# Altium schematic symbol library Sch_Lib.SchLib: 879 symbols (part 6 of 10)
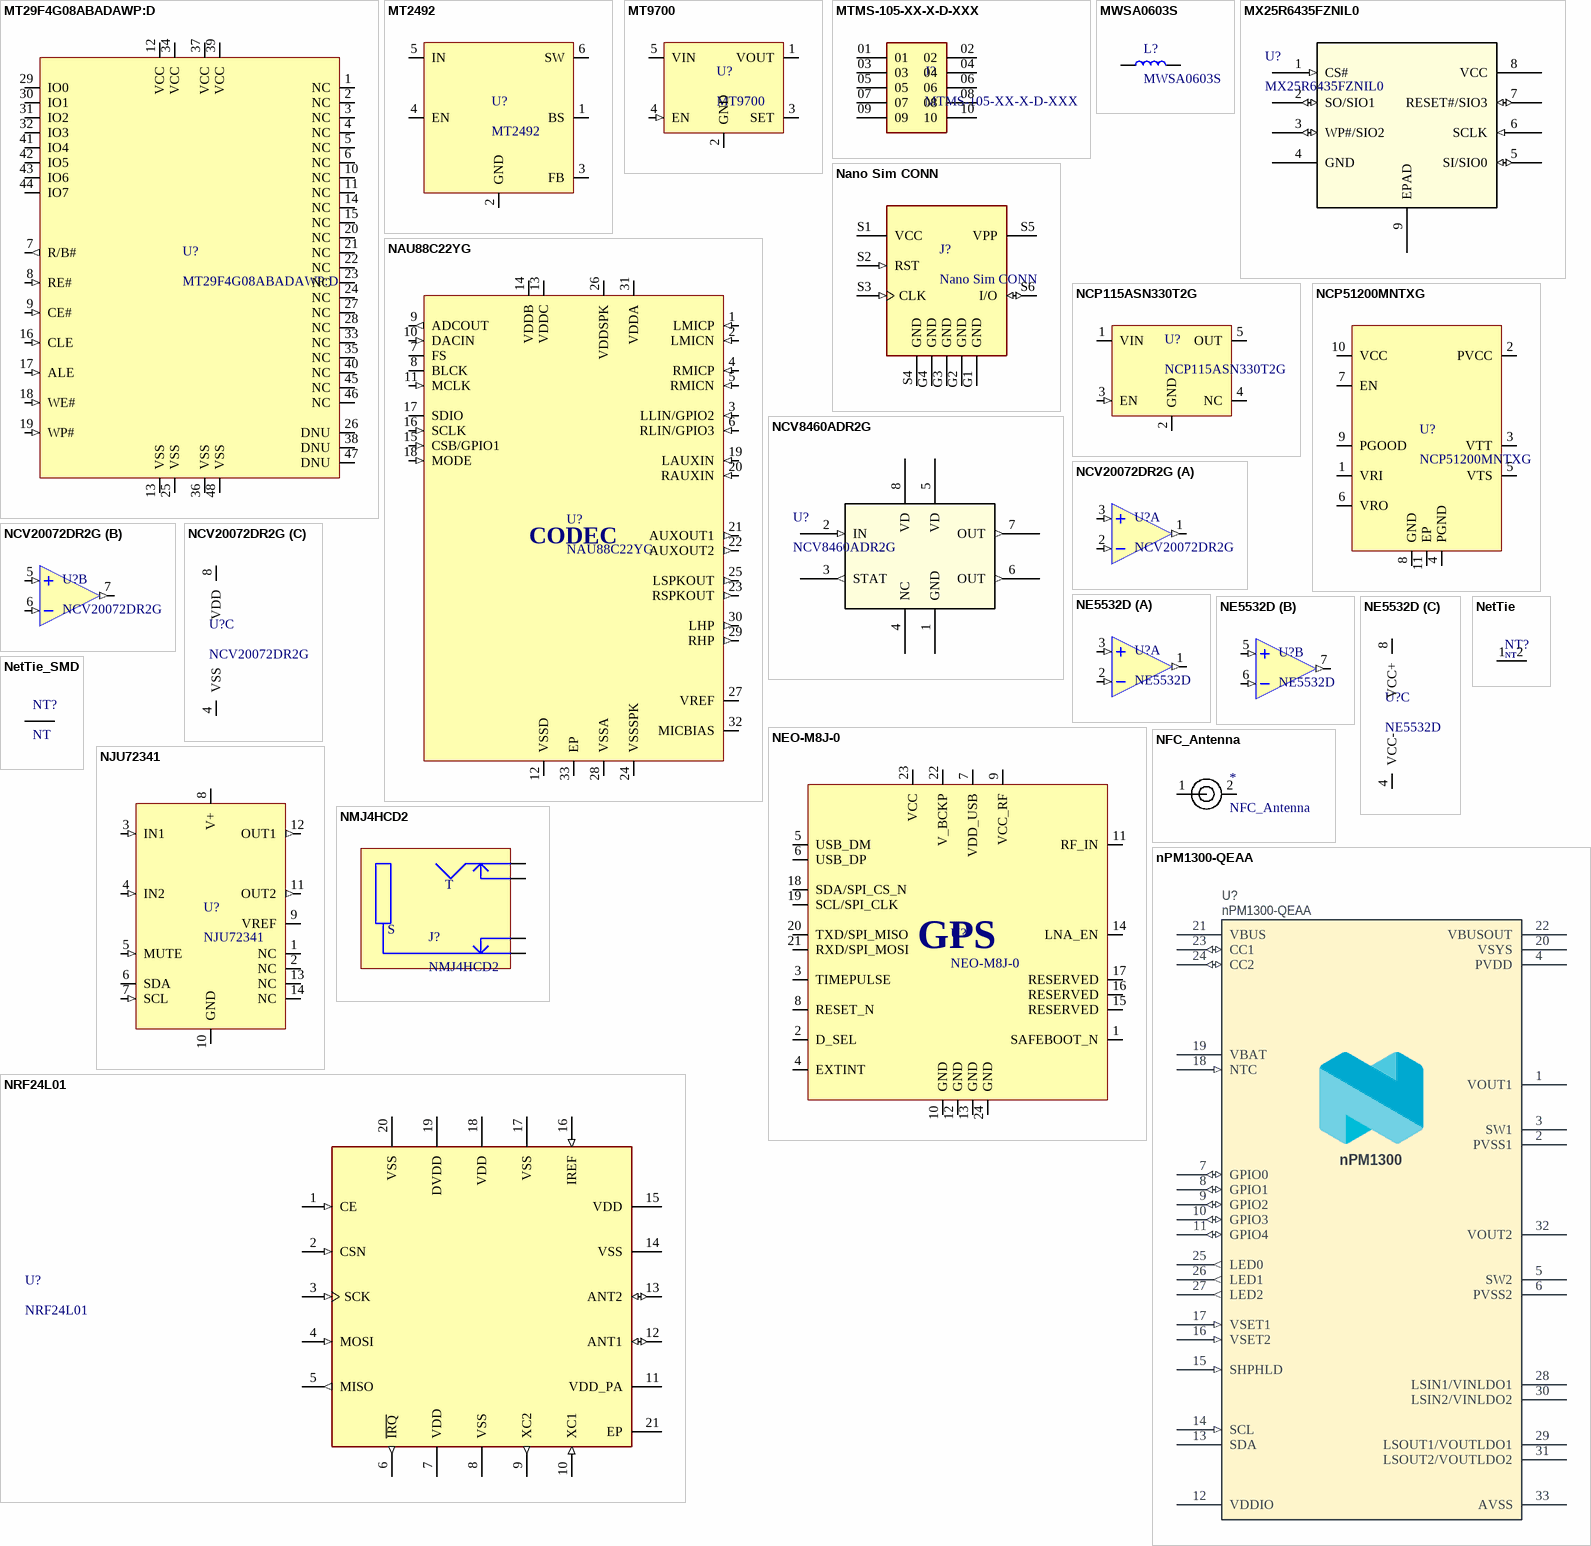
[diagram p51: symbols MT29F4G08ABADAWP:D to NRF24L01]

## NRF24L01
designator U?
IC RF TxRx Only General ISM > 1GHz - 2.4GHz 20-VFQFN Exposed Pad; MF: Nordic; SnapEDA_Link: https://www.snapeda.com/parts/NRF24L01/Nordic+Power/view-part/?ref=snap; Package: VFQFN-20 Nordic Semiconductor; Value: *; MP: NRF24L01; Check_prices: https://www.snapeda.com/parts/NRF24L01/Nordic+Power/view-part/?ref=eda
footprint QFN50P400X400X95-21N
pins: 1 CE (in), 2 CSN (in), 3 SCK (in), 4 MOSI (in), 5 MISO (out), 6 ~{IRQ} (out), 7 VDD (power), 8 VSS (power), 9 XC2 (out), 10 XC1 (in), 11 VDD_PA (power), 12 ANT1 (io), 13 ANT2 (io), 14 VSS (power), 15 VDD (power), 16 IREF (in), 17 VSS (power), 18 VDD (power), 19 DVDD (power), 20 VSS (power), 21 EP (power)

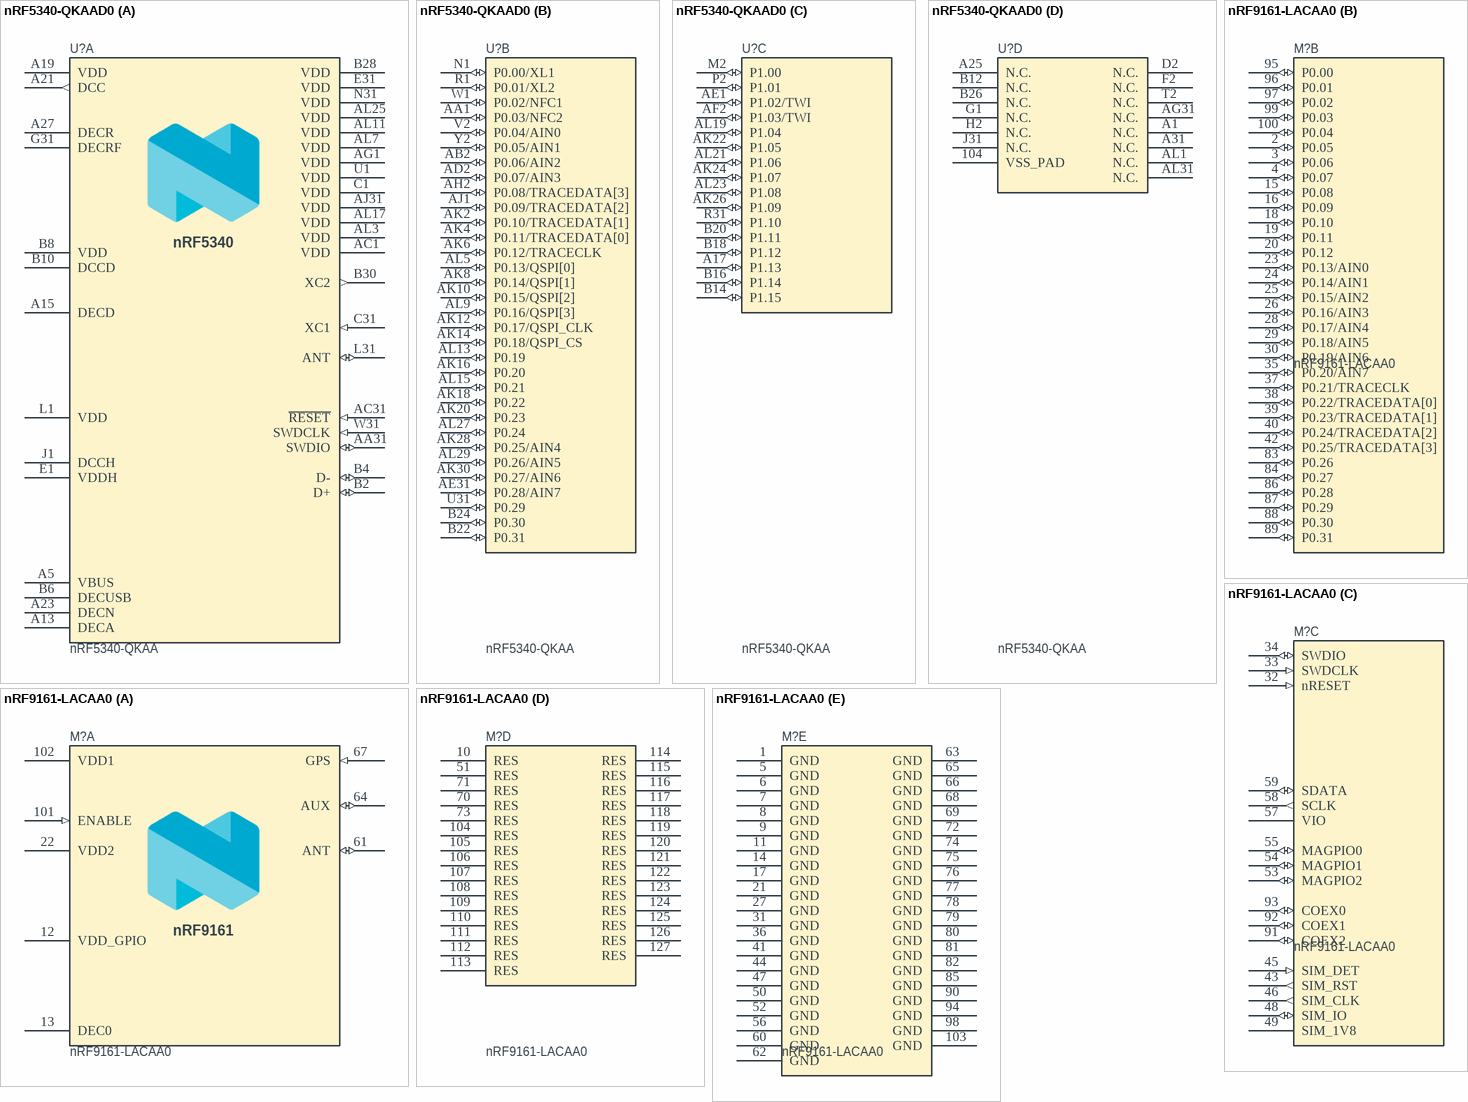
[diagram p26: symbols nRF5340-QKAAD0 to nRF9161-LACAA0]

## nRF5340-QKAAD0
designator U?, comment nRF5340-QKAA
Multi-protocol Bluetooth Low Energy, IEEE 802.15.4, ANT and 2.4GHz proprietary system-on-chip; Part Number: nRF5340-QKAAD0; Manufacturer: Nordic Semiconductor; Part number Norautron: NOD26470035; Part number NEMS: 102000216; Pad Count: 98; Note: N.A.; Component Status: Active; PartId: 102000216; Component Class: Nordic_Devices; Author: rsk; Manufacturer Part Number: nRF5340-QKAAD0; ComponentLink1URL: N.A.; ComponentLink1Description: Datasheet; ComponentLink2URL: N.A.; ComponentLink2Description: Supplier link; HelpURL: N.A.; Footprint Doc: AQFN-98; LatestRevisionDate: 2020-12-02; Published: 2020-12-02; Value: nRF5340-QKAA; Supplier 1: Nordic Semiconductor; Supplier Part Number 1: nRF5340-QKAAD0; Supplier 2: N.A.; Supplier Part Number 2: N.A.; Artikkelnr Noca: N.A.; Part number IPS: N.A.
footprint AQFN40P700X700X85_HS-99N
part A pins: A5 VBUS (power), A13 DECA (power), A15 DECD (power), A19 VDD (power), A21 DCC (out), A23 DECN (power), A27 DECR (power), AA31 SWDIO (io), AC1 VDD (power), AC31 ~{RESET} (in), AG1 VDD (power), AJ31 VDD (power), AL3 VDD (power), AL7 VDD (power), AL11 VDD (power), AL17 VDD (power), AL25 VDD (power), B2 D+ (io), B4 D- (io), B6 DECUSB (power), B8 VDD (power), B10 DCCD (power), B28 VDD (power), B30 XC2 (out), C1 VDD (power), C31 XC1 (in), E1 VDDH (power), E31 VDD (power), G31 DECRF (power), J1 DCCH (power), L1 VDD (power), L31 ANT (io), N31 VDD (power), U1 VDD (power), W31 SWDCLK (in)
part B pins: AA1 P0.03/NFC2 (io), AB2 P0.06/AIN2 (io), AD2 P0.07/AIN3 (io), AE31 P0.28/AIN7 (io), AH2 P0.08/TRACEDATA[3] (io), AJ1 P0.09/TRACEDATA[2] (io), AK2 P0.10/TRACEDATA[1] (io), AK4 P0.11/TRACEDATA[0] (io), AK6 P0.12/TRACECLK (io), AK8 P0.14/QSPI[1] (io), AK10 P0.15/QSPI[2] (io), AK12 P0.17/QSPI_CLK (io), AK14 P0.18/QSPI_CS (io), AK16 P0.20 (io), AK18 P0.22 (io), AK20 P0.23 (io), AK28 P0.25/AIN4 (io), AK30 P0.27/AIN6 (io), AL5 P0.13/QSPI[0] (io), AL9 P0.16/QSPI[3] (io), AL13 P0.19 (io), AL15 P0.21 (io), AL27 P0.24 (io), AL29 P0.26/AIN5 (io), B22 P0.31 (io), B24 P0.30 (io), N1 P0.00/XL1 (io), R1 P0.01/XL2 (io), U31 P0.29 (io), V2 P0.04/AIN0 (io), W1 P0.02/NFC1 (io), Y2 P0.05/AIN1 (io)
part C pins: A17 P1.13 (io), AE1 P1.02/TWI (io), AF2 P1.03/TWI (io), AK22 P1.05 (io), AK24 P1.07 (io), AK26 P1.09 (io), AL19 P1.04 (io), AL21 P1.06 (io), AL23 P1.08 (io), B14 P1.15 (io), B16 P1.14 (io), B18 P1.12 (io), B20 P1.11 (io), M2 P1.00 (io), P2 P1.01 (io), R31 P1.10 (io)
part D pins: 104 VSS_PAD (power), A1 N.C., A25 N.C., A31 N.C., AG31 N.C., AL1 N.C., AL31 N.C., B12 N.C., B26 N.C., D2 N.C., F2 N.C., G1 N.C., H2 N.C., J31 N.C., T2 N.C.
part A text: nRF5340

## nRF9161-LACAA0
designator M?
Low power System-in-Package with integrated LTE-M/NB-IoT modem and GPS; Manufacturer: Nordic Semiconductor; Component Status: Active; Pad Count: 159; Note: N.A.; Part Number: nRF9161-LACAA0; Component Class: Nordic_Devices; Author: kod1; Manufacturer Part Number: nRF9161-LACAA0; ComponentLink1URL: N.A.; ComponentLink1Description: Datasheet; ComponentLink2URL: N.A.; ComponentLink2Description: Supplier link; HelpURL: N.A.; LatestRevisionDate: 2024-04-02; Published: 2024-04-02; Footprint Doc: LGA-159; Value: nRF9161-LACAA0; Supplier 1: Nordic Semiconductor; Supplier Part Number 1: nRF9161-LACAA0; Supplier 2: N.A.; Supplier Part Number 2: N.A.; Artikkelnr Noca: N.A.; Part number IPS: N.A.; Part number Norautron: N.A.
footprint LGA50P1600X1050X104-159N
part A pins: 12 VDD_GPIO (power), 13 DEC0 (power), 22 VDD2 (power), 61 ANT (io), 64 AUX (io), 67 GPS (in), 101 ENABLE (in), 102 VDD1 (power)
part B pins: 2 P0.05 (io), 3 P0.06 (io), 4 P0.07 (io), 15 P0.08 (io), 16 P0.09 (io), 18 P0.10 (io), 19 P0.11 (io), 20 P0.12 (io), 23 P0.13/AIN0 (io), 24 P0.14/AIN1 (io), 25 P0.15/AIN2 (io), 26 P0.16/AIN3 (io), 28 P0.17/AIN4 (io), 29 P0.18/AIN5 (io), 30 P0.19/AIN6 (io), 35 P0.20/AIN7 (io), 37 P0.21/TRACECLK (io), 38 P0.22/TRACEDATA[0] (io), 39 P0.23/TRACEDATA[1] (io), 40 P0.24/TRACEDATA[2] (io), 42 P0.25/TRACEDATA[3] (io), 83 P0.26 (io), 84 P0.27 (io), 86 P0.28 (io), 87 P0.29 (io), 88 P0.30 (io), 89 P0.31 (io), 95 P0.00 (io), 96 P0.01 (io), 97 P0.02 (io), 99 P0.03 (io), 100 P0.04 (io)
part C pins: 32 nRESET (in), 33 SWDCLK (in), 34 SWDIO (io), 43 SIM_RST (out), 45 SIM_DET (in), 46 SIM_CLK (out), 48 SIM_IO (io), 49 SIM_1V8 (power), 53 MAGPIO2 (io), 54 MAGPIO1 (io), 55 MAGPIO0 (io), 57 VIO (power), 58 SCLK (out), 59 SDATA (io), 91 COEX2 (io), 92 COEX1 (io), 93 COEX0 (io)
part D pins: 10 RES, 51 RES, 70 RES, 71 RES, 73 RES, 104 RES, 105 RES, 106 RES, 107 RES, 108 RES, 109 RES, 110 RES, 111 RES, 112 RES, 113 RES, 114 RES, 115 RES, 116 RES, 117 RES, 118 RES, 119 RES, 120 RES, 121 RES, 122 RES, 123 RES, 124 RES, 125 RES, 126 RES, 127 RES
part E pins: 1 GND (power), 5 GND (power), 6 GND, 7 GND, 8 GND, 9 GND (power), 11 GND, 14 GND (power), 17 GND (power), 21 GND (power), 27 GND (power), 31 GND (power), 36 GND (power), 41 GND (power), 44 GND (power), 47 GND (power), 50 GND (power), 52 GND (power), 56 GND (power), 60 GND (power), 62 GND (power), 63 GND (power), 65 GND (power), 66 GND (power), 68 GND, 69 GND, 72 GND (power), 74 GND (power), 75 GND (power), 76 GND (power), 77 GND (power), 78 GND (power), 79 GND (power), 80 GND (power), 81 GND (power), 82 GND (power), 85 GND (power), 90 GND (power), 94 GND (power), 98 GND (power), 103 GND (power)
part A text: nRF9161

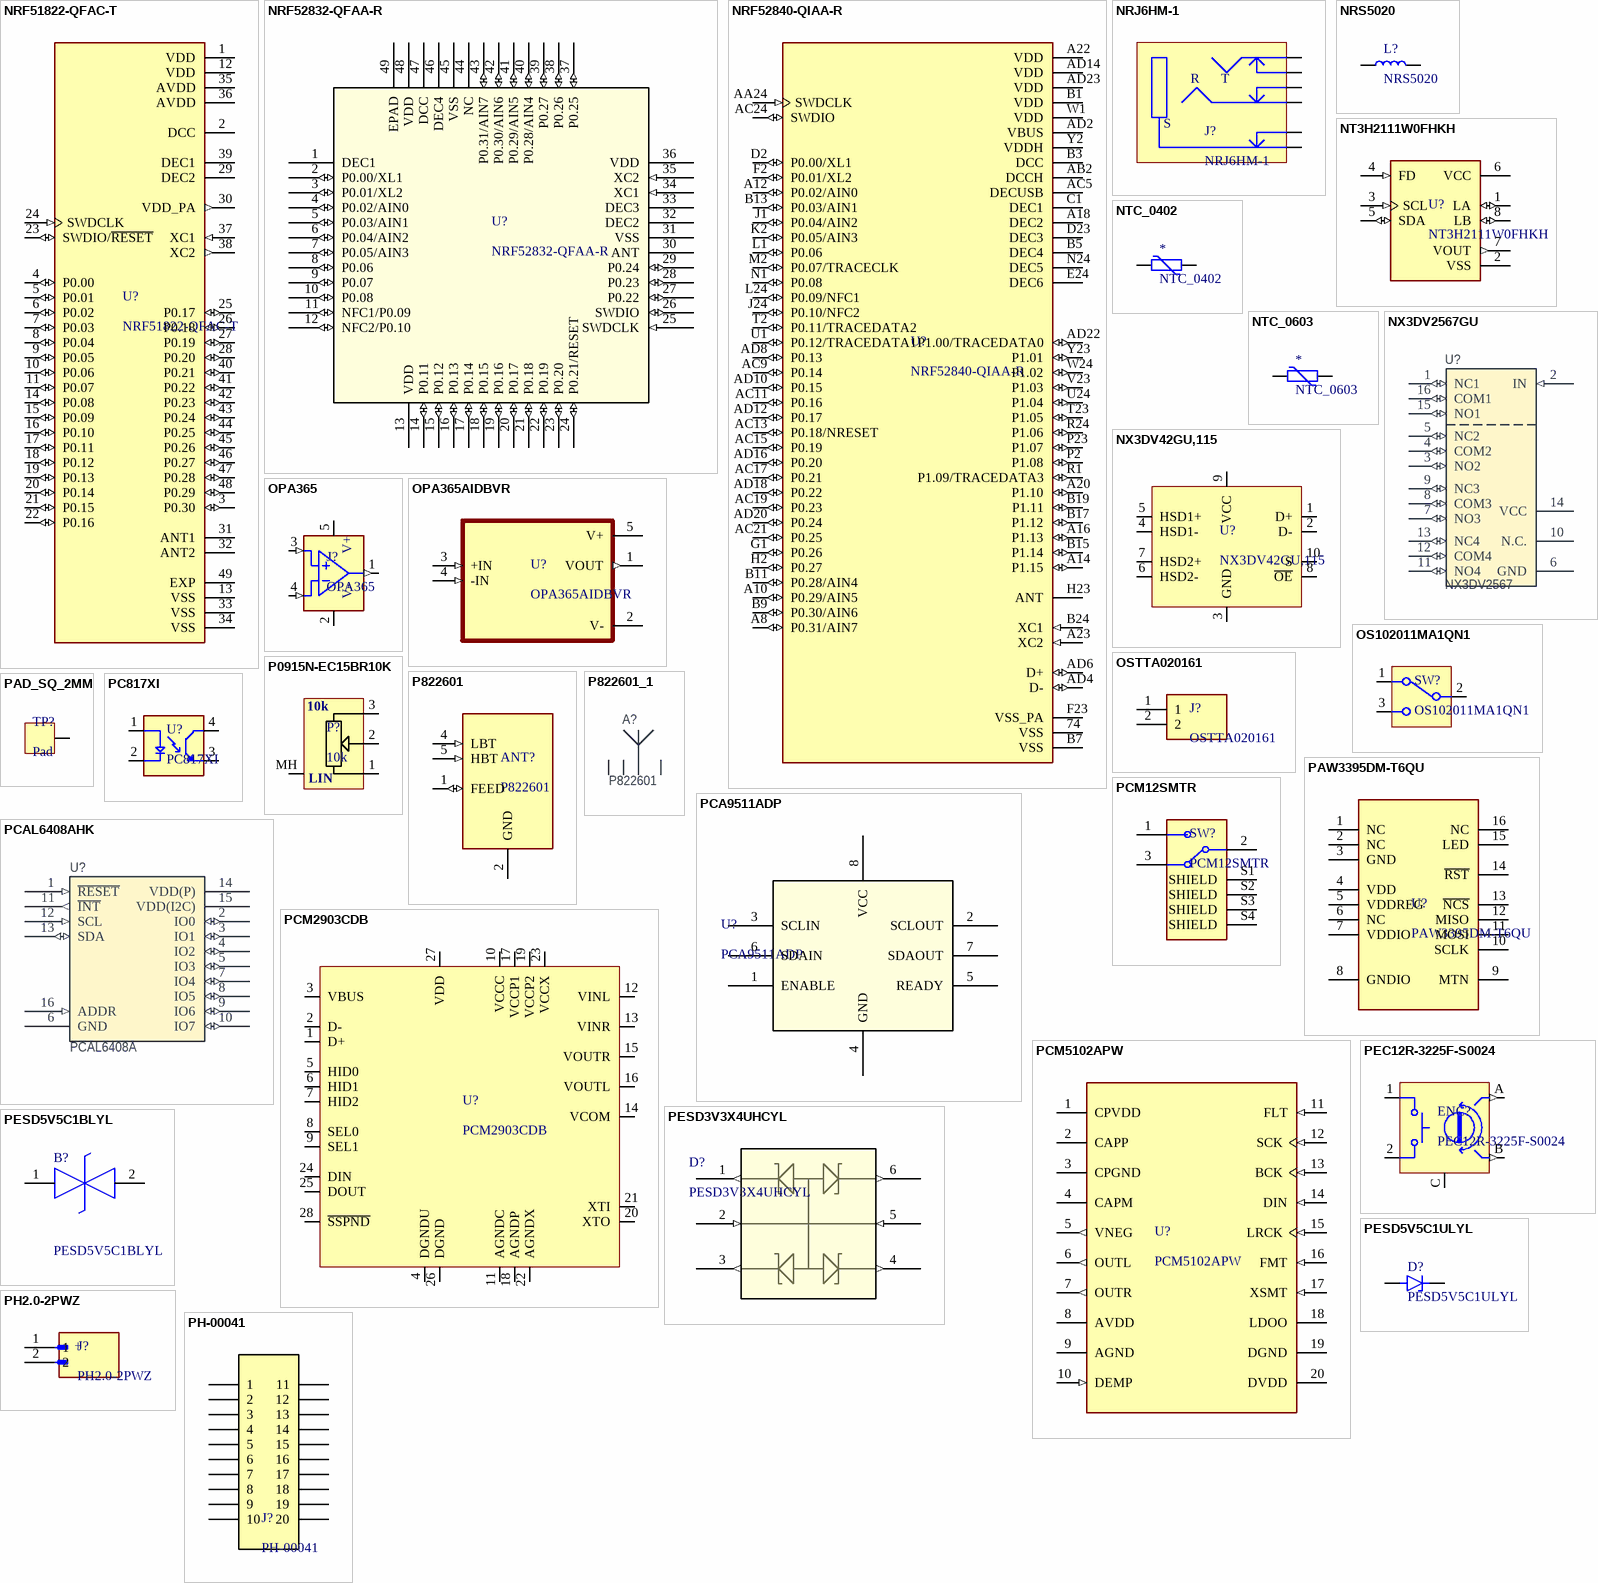
[diagram p27: symbols NRF51822-QFAC-T to PH-00041]

## NRF51822-QFAC-T
designator U?
IC RF TxRx + MCU Bluetooth, General ISM > 1GHz Bluetooth v4.0 2.4GHz 48-VFQFN Exposed Pad; MF: Nordic Semiconductor; Check_prices: https://www.snapeda.com/parts/NRF51822-QFAC-T/Nordic+Semiconductor+ASA/view-part/?ref=eda; Purchase-URL: https://pricing.snapeda.com/search/part/NRF51822-QFAC-T/?ref=eda; Package: VFQFN-48 Nordic Semiconductor; Availability: In Stock; Value: *; MP: NRF51822-QFAC-T; SnapEDA_Link: https://www.snapeda.com/parts/NRF51822-QFAC-T/Nordic+Semiconductor+ASA/view-part/?ref=snap; Price: None
footprint QFN40P600X600X90-49N
pins: 1 VDD (power), 2 DCC (power), 3 P0.30 (io), 4 P0.00 (io), 5 P0.01 (io), 6 P0.02 (io), 7 P0.03 (io), 8 P0.04 (io), 9 P0.05 (io), 10 P0.06 (io), 11 P0.07 (io), 12 VDD (power), 13 VSS (power), 14 P0.08 (io), 15 P0.09 (io), 16 P0.10 (io), 17 P0.11 (io), 18 P0.12 (io), 19 P0.13 (io), 20 P0.14 (io), 21 P0.15 (io), 22 P0.16 (io), 23 SWDIO/~{RESET} (io), 24 SWDCLK (in), 25 P0.17 (io), 26 P0.18 (io), 27 P0.19 (io), 28 P0.20 (io), 29 DEC2 (power), 30 VDD_PA (out), 31 ANT1, 32 ANT2, 33 VSS (power), 34 VSS (power), 35 AVDD (power), 36 AVDD (power), 37 XC1 (in), 38 XC2 (out), 39 DEC1 (power), 40 P0.21 (io), 41 P0.22 (io), 42 P0.23 (io), 43 P0.24 (io), 44 P0.25 (io), 45 P0.26 (io), 46 P0.27 (io), 47 P0.28 (io), 48 P0.29 (io), 49 EXP (power)

## NRF52832-QFAA-R
designator U?
IC RF TxRx + MCU Bluetooth, General ISM > 1GHz Bluetooth v5.3 2.4GHz 48-VFQFN Exposed Pad; Manufacturer_Name: Nordic Semiconductor; Copyright: Copyright (C) 2025 Ultra Librarian. All rights reserved.; Manufacturer_Part_Number: NRF52832-QFAA-R; RefDes: RefDes; Type: Type
footprint QFN-48_NOR
footprint Model Name (Model Description)
pins: 1 DEC1 (power), 2 P0.00/XL1 (io), 3 P0.01/XL2 (io), 4 P0.02/AIN0 (io), 5 P0.03/AIN1 (io), 6 P0.04/AIN2 (io), 7 P0.05/AIN3 (io), 8 P0.06 (io), 9 P0.07 (io), 10 P0.08 (io), 11 NFC1/P0.09 (io), 12 NFC2/P0.10 (io), 13 VDD (power), 14 P0.11 (io), 15 P0.12 (io), 16 P0.13 (io), 17 P0.14 (io), 18 P0.15 (io), 19 P0.16 (io), 20 P0.17 (io), 21 P0.18 (io), 22 P0.19 (io), 23 P0.20 (io), 24 P0.21/RESET (io), 25 SWDCLK (in), 26 SWDIO (io), 27 P0.22 (io), 28 P0.23 (io), 29 P0.24 (io), 30 ANT, 31 VSS (power), 32 DEC2 (power), 33 DEC3 (power), 34 XC1 (in), 35 XC2 (in), 36 VDD (power), 37 P0.25 (io), 38 P0.26 (io), 39 P0.27 (io), 40 P0.28/AIN4 (io), 41 P0.29/AIN5 (io), 42 P0.30/AIN6 (io), 43 P0.31/AIN7 (io), 44 NC, 45 VSS (power), 46 DEC4 (power), 47 DCC (power), 48 VDD (power), 49 EPAD

## NRF52840-QIAA-R
designator U?
IC RF TxRx + MCU 802.15.4, Bluetooth Bluetooth v5.0, Thread, ZigbeeÂ® 2.4GHz 73-VFQFN Dual Rows, Exposed Pad; MF: Nordic; Package: VFQFN-73 Nordic; Price: None; Check_prices: https://www.snapeda.com/parts/NRF52840-QIAA-R/Nordic+Semiconductor+ASA/view-part/?ref=eda; Value: *; SnapEDA_Link: https://www.snapeda.com/parts/NRF52840-QIAA-R/Nordic+Semiconductor+ASA/view-part/?ref=snap; MP: NRF52840-QIAA-R; Availability: In Stock; Purchase-URL: https://pricing.snapeda.com/search?q=NRF52840-QIAA-R&ref=eda
footprint XCVR_NRF52840-QIAA-R
pins: 74 VSS (power), A8 P0.31/AIN7 (io), A10 P0.29/AIN5 (io), A12 P0.02/AIN0 (io), A14 P1.15 (io), A16 P1.13 (io), A18 DEC2 (power), A20 P1.10 (io), A22 VDD (power), A23 XC2 (in), AA24 SWDCLK (in), AB2 DCCH (power), AC5 DECUSB (power), AC9 P0.14 (io), AC11 P0.16 (io), AC13 P0.18/NRESET (io), AC15 P0.19 (io), AC17 P0.21 (io), AC19 P0.23 (io), AC21 P0.25 (io), AC24 SWDIO (io), AD2 VBUS (power), AD4 D- (io), AD6 D+ (io), AD8 P0.13 (io), AD10 P0.15 (io), AD12 P0.17 (io), AD14 VDD (power), AD16 P0.20 (io), AD18 P0.22 (io), AD20 P0.24 (io), AD22 P1.00/TRACEDATA0 (io), AD23 VDD (power), B1 VDD (power), B3 DCC (power), B5 DEC4 (power), B7 VSS (power), B9 P0.30/AIN6 (io), B11 P0.28/AIN4 (io), B13 P0.03/AIN1 (io), B15 P1.14 (io), B17 P1.12 (io), B19 P1.11 (io), B24 XC1 (in), C1 DEC1 (power), D2 P0.00/XL1 (io), D23 DEC3 (power), E24 DEC6 (power), F2 P0.01/XL2 (io), F23 VSS_PA (power), G1 P0.26 (io), H2 P0.27 (io), H23 ANT, J1 P0.04/AIN2 (io), J24 P0.10/NFC2 (io), K2 P0.05/AIN3 (io), L1 P0.06 (io), L24 P0.09/NFC1 (io), M2 P0.07/TRACECLK (io), N1 P0.08 (io), N24 DEC5 (power), P2 P1.08 (io), P23 P1.07 (io), R1 P1.09/TRACEDATA3 (io), R24 P1.06 (io), T2 P0.11/TRACEDATA2 (io), T23 P1.05 (io), U1 P0.12/TRACEDATA1 (io), U24 P1.04 (io), V23 P1.03 (io), W1 VDD (power), W24 P1.02 (io), Y2 VDDH (power), Y23 P1.01 (io)

## NRJ6HM-1
designator J?
1/4" Stereo Jack, TRS Switched; Manufacturer: Neutrik; Manufacturer Part Number: NRJ6HM-1
footprint NRJ6HM-1
pins: R, RN, S, SN, T, TN

## NRS5020
designator L?
NRS5020 SMD Power Inductor Taiyo Yuden; Manufacturer: Taiyo Yuden; Manufacturer Part Number: NRS5020
footprint NRS5020
pins: 1, 2

## NT3H2111W0FHKH
designator U?
RFID Transponder IC 13.56MHz ISO 14443 IÂ²C 3.3V 8-XFQFN Exposed Pad; MF: NXP USA; Value: *; Availability: Good; Price: None; Package: XQFN-8 NXP Semiconductors; MP: NT3H2111W0FHKH; Purchase-URL: https://pricing.snapeda.com/search/part/NT3H2111W0FHKH/?ref=eda; SnapEDA_Link: https://www.snapeda.com/parts/NT3H2111W0FHKH/NXP%20USA%20Inc./view-part/523723/?ref=snap
footprint QFN8P50_160X160X50L40X20N
pins: 1 LA (io), 2 VSS (power), 3 SCL (in), 4 FD (in), 5 SDA (io), 6 VCC (power), 7 VOUT (out), 8 LB (io)

## NTC_0402
designator *
THERMISTOR NTC 10KOHM 3380K 0402
footprint RES_0402
pins: 1, 2

## NTC_0603
designator *
10kΩ 310uA 100mW 3950K ±1% 0603 NTC Thermistors ROHS
footprint RES_0603
pins: 1, 2

## NX3DV42GU,115
designator U?
USB2.0 HS DPDT Switch; Manufacturer: NXP Semiconductors; Manufacturer Part Number: NX3DV42GU,115
footprint XQFN-10_SOT1160-1
pins: 1 D+, 2 D-, 3 GND, 4 HSD1-, 5 HSD1+, 6 HSD2-, 7 HSD2+, 8 ~{OE}, 9 VCC, 10 S

## NX3DV2567GU
designator U?, comment NX3DV2567
Low-ohmic four-pole double-throw analog switch; Part Number: NX3DV2567GU; Manufacturer: NXP Semiconductors; Part number IPS: 00000007816; Part number NEMS: 101900290; Note: N.A.; Artikkelnr Noca: 15079317; Pad Count: 16; Component Status: Active; Manufacturer Part Number: NX3DV2567GU; Footprint Doc: XQFN-16; LatestRevisionDate: 2015-02-17; Published: 2015-02-17; Value: NX3DV2567; ComponentLink1URL: N.A.; ComponentLink1Description: Datasheet; ComponentLink2URL: N.A.; ComponentLink2Description: Supplier link; HelpURL: http://www.nxp.com/documents/data_sheet/NX3DV2567.pdf; Supplier 1: Digi-Key; Supplier Part Number 1: 568-5206-1-ND; Supplier 2: Mouser; Supplier Part Number 2: 771-NX3DV2567GU115; PartId: 101900290; Component Class: Misc_ICs; Author: rsk; Part number Norautron: N.A.
footprint XQFN40P180X260X50-16N
pins: 1 NC1 (io), 2 IN (in), 3 NO2 (io), 4 COM2 (io), 5 NC2 (io), 6 GND (power), 7 NO3 (io), 8 COM3 (io), 9 NC3 (io), 10 N.C., 11 NO4 (io), 12 COM4 (io), 13 NC4 (io), 14 VCC (power), 15 NO1 (io), 16 COM1 (io)
3 alternate drawings of the same symbol

## OPA365
designator J?
Single, 800-nA, 1.8-V, RRIO op amp with zero-crossover distortion for cost-sensitive application
footprint SOT-23-5 (SOT23, 5-Leads, Body 2,90x2,80mm, Pitch 0,95mm, IPC Medium Density)
pins: 1 OUT (out), 2 V- (power), 3 +IN (in), 4 -IN (in), 5 V+ (power)

## OPA365AIDBVR
designator U?
2.2V, 50MHz, Low-Noise, Single-Supply Rail-to-Rail Operational Amplifier 5-SOT-23 -40 to 125; MF: Texas Instruments; Purchase-URL: https://pricing.snapeda.com/search/part/OPA365AIDBVR/?ref=eda; Package: SOT-23-5 Texas Instruments; SnapEDA_Link: https://www.snapeda.com/parts/OPA365AIDBVR/Texas%20Instruments/view-part/451667/?ref=snap; Value: *; Price: None; MP: OPA365AIDBVR; Availability: Good; Check_prices: https://www.snapeda.com/parts/OPA365AIDBVR/Texas%20Instruments/view-part/451667/?ref=eda
footprint SOT95P280X145-5N
pins: 1 VOUT (out), 2 V- (power), 3 +IN (in), 4 -IN (in), 5 V+ (power)

## OS102011MA1QN1
designator SW?
Slide Switch SPDT Horizontal THT; Manufacturer: C&K; Manufacturer Part Number: OS102011MA1QN1
footprint OS102011MA1QN1
pins: 1, 2 COM, 3

## OSTTA020161
designator J?
2 Position Wire to Board Terminal Block Horizontal with Board 0.197 (5.00mm) Through Hole; MF: On Shore Technology Inc.; SnapEDA_Link: https://www.snapeda.com/parts/OSTTA020161/On+Shore+Technology/view-part/?ref=snap; Package: None; Value: *; MP: OSTTA020161; Check_prices: https://www.snapeda.com/parts/OSTTA020161/On+Shore+Technology/view-part/?ref=eda
footprint OST_OSTTA020161
pins: 1, 2

## P0915N-EC15BR10K
designator P?, comment 10k
Potentiometer Vertical 10k Linear Taper THT PCB-Mount Smooth Shaft w/ Slot D=6mm L=15mm; Manufacturer: TT Electronics; Manufacturer Part Number: P0915N-EC15BR10K
footprint P0915N-EC15BR10K
pins: 1, 2, 3, MH
text: LIN

## P822601
designator ANT?
700MHz, 750MHz, 850MHz, 900MHz, 1.8GHz, 1.9GHz, 2.1GHz, 2.7GHz CDMA, DCS, EDGE, GPRS, GSM, HSDPA, LTE, PCS, UMTS, WCDMA Flat Bar RF Antenna 700MHz ~ 787MHz, 824MHz ~ 960MHz, 1.71GHz ~ 2.17GHz, 2.5GHz ~ 2.7GHz 1.1dBi, 1.7dBi, 1.8dBi, 2.2dBi, 3.9dBi, 3.8dBi; MF: AVX Corporation; SnapEDA_Link: https://www.snapeda.com/parts/P822601/AVX/view-part/?ref=snap; Package: None; Value: *; MP: P822601; Check_prices: https://www.snapeda.com/parts/P822601/AVX/view-part/?ref=eda
footprint ANT_P822601
pins: 1 FEED (io), 2 GND (power), 4 LBT (in), 5 HBT (in)

## P822601_1
designator A?, comment P822601
ANTENNA PRESTTA OCTABAND LTE; Manufacturer: Ethertronics; Part number IPS: 00000009001; Part number NEMS: 100700043; Note: N.A.; Pad Count: 2; Component Status: Active; Part Number: P822601; Manufacturer Part Number: P822601; Footprint Doc: P822601; LatestRevisionDate: 2017-07-28; Published: 2017-07-28; Value: P822601; Artikkelnr Noca: N.A.; ComponentLink1URL: N.A.; ComponentLink1Description: Datasheet; ComponentLink2URL: N.A.; ComponentLink2Description: Supplier link; HelpURL: http://www.ethertronics.com/wp-content/uploads/2016/11/Prestta-P822601-P822602-Standard-Cellular-Octa-Band-20160904.pdf; Supplier 1: moreelectronics.dk; Supplier Part Number 1: P822601; Supplier 2: Digi-Key; Supplier Part Number 2: 939-1057-1-ND; PartId: 100700043; Component Class: Antennas; Author: rsk; Part number Norautron: N.A.
footprint P822601
pins: 1, 2, 3, 4

## PAD_SQ_2MM
designator TP?, comment Pad  (no BOM)
Test Point Square 2mm
footprint PAD_SQ_2MM
pins: 1

## PAW3395DM-T6QU
designator U?
DIP-16 Sensor Evaluation Boards RoHS
footprint PAW3395_DIP-16
pins: 1 NC, 2 NC, 3 GND, 4 VDD, 5 VDDREG, 6 NC, 7 VDDIO, 8 GNDIO, 9 MTN, 10 SCLK, 11 MOSI, 12 MISO, 13 ~{NCS}, 14 ~{RST}, 15 LED, 16 NC

## PC817XI
designator U?
Optoisolator Transistor Output 5000Vrms 1 Channel 4-SMD; MF: Sharp Microelectronics; Price: None; Availability: In Stock; Package: SMD-4 Sharp Microelectronics; MP: PC817XI; Value: *; SnapEDA_Link: https://www.snapeda.com/parts/PC817XI/Sharp+Microelectronics/view-part/?ref=snap; Purchase-URL: https://pricing.snapeda.com/search/part/PC817XI/?ref=eda; Check_prices: https://www.snapeda.com/parts/PC817XI/Sharp+Microelectronics/view-part/?ref=eda
footprint SOIC254P975X460-4N
pins: 1 A, 2 C, 3 ET, 4 CT

## PCA9511ADP
designator U?
Description; Manufacturer_Name: NXP; Copyright: Copyright (C) 2026 Ultra Librarian. All rights reserved.; Manufacturer_Part_Number: PCA9511ADP; RefDes: RefDes; Type: Type
footprint SOT505-1_NXP
pins: 1 ENABLE, 2 SCLOUT, 3 SCLIN, 4 GND, 5 READY, 6 SDAIN, 7 SDAOUT, 8 VCC

## PCAL6408AHK
designator U?, comment PCAL6408A
8-bit I2C-bus I/O expander with interrupt output; Part Number: PCAL6408AHK; Manufacturer: NXP Semiconductors; Part number IPS: 00000009987; Part number NEMS: 101900289; Note: N.A.; Artikkelnr Noca: 15079321; Pad Count: 16; Component Status: Active; Manufacturer Part Number: PCAL6408AHK; Footprint Doc: XQFN-16; LatestRevisionDate: 2015-04-29; Published: 2015-04-29; Value: PCAL6408A; ComponentLink1URL: N.A.; ComponentLink1Description: Datasheet; ComponentLink2URL: N.A.; ComponentLink2Description: Supplier link; HelpURL: http://www.nxp.com/documents/data_sheet/PCAL6408A.pdf; Supplier 1: Digi-Key; Supplier Part Number 1: 568-9944-1-ND; Supplier 2: Mouser; Supplier Part Number 2: 771-PCAL6408AHKX; PartId: 101900289; Component Class: Misc_ICs; Author: rsk; Part number Norautron: N.A.
footprint XQFN40P180X260X50-16N
pins: 1 ~{RESET} (in), 2 IO0 (io), 3 IO1 (io), 4 IO2 (io), 5 IO3 (io), 6 GND (power), 7 IO4 (io), 8 IO5 (io), 9 IO6 (io), 10 IO7 (io), 11 ~{INT} (out), 12 SCL (in), 13 SDA (io), 14 VDD(P) (power) "VDD 2.3V - 5.5V", 15 VDD(I2C) (power), 16 ADDR (in)

## PCM12SMTR
designator SW?
Slide Switch SPDT Surface Mount, Right Angle; MF: C&K; Price: None; Package: None; Purchase-URL: https://pricing.snapeda.com/search/part/PCM12SMTR/?ref=eda; Availability: In Stock; SnapEDA_Link: https://www.snapeda.com/parts/PCM12SMTR/C%2526K/view-part/?ref=snap; Value: *; MP: PCM12SMTR; Check_prices: https://www.snapeda.com/parts/PCM12SMTR/C%2526K/view-part/?ref=eda
footprint SW_PCM12SMTR
pins: 1, 2, 3, S1 SHIELD, S2 SHIELD, S3 SHIELD, S4 SHIELD

## PCM2903CDB
designator U?
Stereo USB1.1 CODEC with line-out and S/PDIF I/O, Self-powered (HID Interface); Manufacturer: Texas Instruments; Manufacturer Part Number: PCM2903CDB
footprint SSOP-28
pins: 1 D+, 2 D-, 3 VBUS, 4 DGNDU, 5 HID0, 6 HID1, 7 HID2, 8 SEL0, 9 SEL1, 10 VCCC, 11 AGNDC, 12 VINL, 13 VINR, 14 VCOM, 15 VOUTR, 16 VOUTL, 17 VCCP1, 18 AGNDP, 19 VCCP2, 20 XTO, 21 XTI, 22 AGNDX, 23 VCCX, 24 DIN, 25 DOUT, 26 DGND, 27 VDD, 28 ~{SSPND}

## PCM5102APW
designator U?
2VRMS DirectPathâ„¢, DAC estÃ©reo de Ã¡udio de 112dB com interface PCM de 32 bits e 384kHz 20-TSSOP -25 a 85; MF: Texas Instruments; Purchase-URL: https://pricing.snapeda.com/search/part/PCM5102APW/?ref=eda; MP: PCM5102APW; Value: *; Availability: In Stock; Check_prices: https://www.snapeda.com/parts/PCM5102APW/Texas+Instruments/view-part/?ref=eda; SnapEDA_Link: https://www.snapeda.com/parts/PCM5102APW/Texas+Instruments/view-part/?ref=snap; Price: None; Package: TSSOP-20 Texas Instruments
footprint SOP65P640X120-20N
pins: 1 CPVDD (power), 2 CAPP, 3 CPGND (power), 4 CAPM, 5 VNEG (out), 6 OUTL (out), 7 OUTR (out), 8 AVDD (power), 9 AGND (power), 10 DEMP (in), 11 FLT (in), 12 SCK (in), 13 BCK (in), 14 DIN (in), 15 LRCK (in), 16 FMT (in), 17 XSMT (in), 18 LDOO (power), 19 DGND (power), 20 DVDD (power)

## PEC12R-3225F-S0024
designator ENC?
Rotary Encoder with Switch 20 Detents 7mm Bushing 20mm Threaded Shaft Vertical; Manufacturer: Bourns; Manufacturer Part Number: PEC12R-3225F-S0024; Distributor Link: https://www.mouser.de/ProductDetail/Bourns/PEC12R-3225F-S0024?qs=%252B9%2Fcbd0IE0RkGCm1rUs7CA%3D%3D
footprint PEC12R-3225F-S
pins: 1, 2, A (out), B (out), C GND (power)

## PESD3V3X4UHCYL
designator D?
Description; Manufacturer_Name: Nexperia; Copyright: Copyright (C) 2025 Ultra Librarian. All rights reserved.; Manufacturer_Part_Number: PESD3V3X4UHCYL
footprint DFN1308-6_SOT8006_NEX
pins: 1 (out), 2 (in), 3 (out), 4 (out), 5 (in), 6 (out)

## PESD5V5C1BLYL
designator B?
PESD5V5C1BL - Extremely low clamping bidirectional ESD protection diode@en-us; Manufacturer_Name: Nexperia; Geometry.Height: 0.5mm; Manufacturer_Part_Number: PESD5V5C1BLYL; Mouser Part Number: 771-PESD5V5C1BLYL; Mouser Price/Stock: https://www.mouser.co.uk/ProductDetail/Nexperia/PESD5V5C1BLYL?qs=3Rah4i%252BhyCFwc8nZBq0KPQ%3D%3D; Arrow Part Number: PESD5V5C1BLYL; Arrow Price/Stock: https://www.arrow.com/en/products/pesd5v5c1blyl/nexperia?utm_currency=USD&region=nac; Datasheet Link: https://assets.nexperia.com/documents/data-sheet/PESD5V0S1BA_BB_BL.pdf
footprint PESD5V5C1BLYL
pins: 1 K1, 2 K2

## PESD5V5C1ULYL
designator D?
Esd Protection Device, 5.5V, Dfn1006 Rohs Compliant: Yes |Nexperia PESD5V5C1ULYL; MF: Nexperia USA Inc.; SnapEDA_Link: https://www.snapeda.com/parts/PESD5V5C1ULYL/Nexperia/view-part/?ref=snap; Package: SOD-882 Nexperia USA; Value: *; MP: PESD5V5C1ULYL; Check_prices: https://www.snapeda.com/parts/PESD5V5C1ULYL/Nexperia/view-part/?ref=eda
footprint DIO_PESD5V5C1ULYL
pins: A, K

## PH2.0-2PWZ
designator J?
Connector Header Through Hole 2 position 0.079 (2.00mm) 90; MF: XUNPU; MP: WAFER-PH2.0-2PWZ; LCSC Part #: C5359610; Package: Push-Pull,P=2mm; Value: *; LCSC_Link: https://www.lcsc.com/product-detail/Wire-To-Board-Connector_XUNPU-WAFER-PH2-0-2PWZ_C5359610.html; ComponentLink1Description: Supplier_Link; ComponentLink1URL: https://www.lcsc.com/product-detail/Wire-To-Board-Connector_XUNPU-WAFER-PH2-0-2PWZ_C5359610.html
footprint JST_B2B-PH-K-S(LF)(SN)
pins: 1, 2
text: +

## PH-00041
designator J?
Through Hole,P=2.54mm; MP: 1-215447-0; Package: None; Price: None; Value: *; Availability: Unavailable
footprint TE_1-215447-0
pins: 1, 2, 3, 4, 5, 6, 7, 8, 9, 10, 11, 12, 13, 14, 15, 16, 17, 18, 19, 20

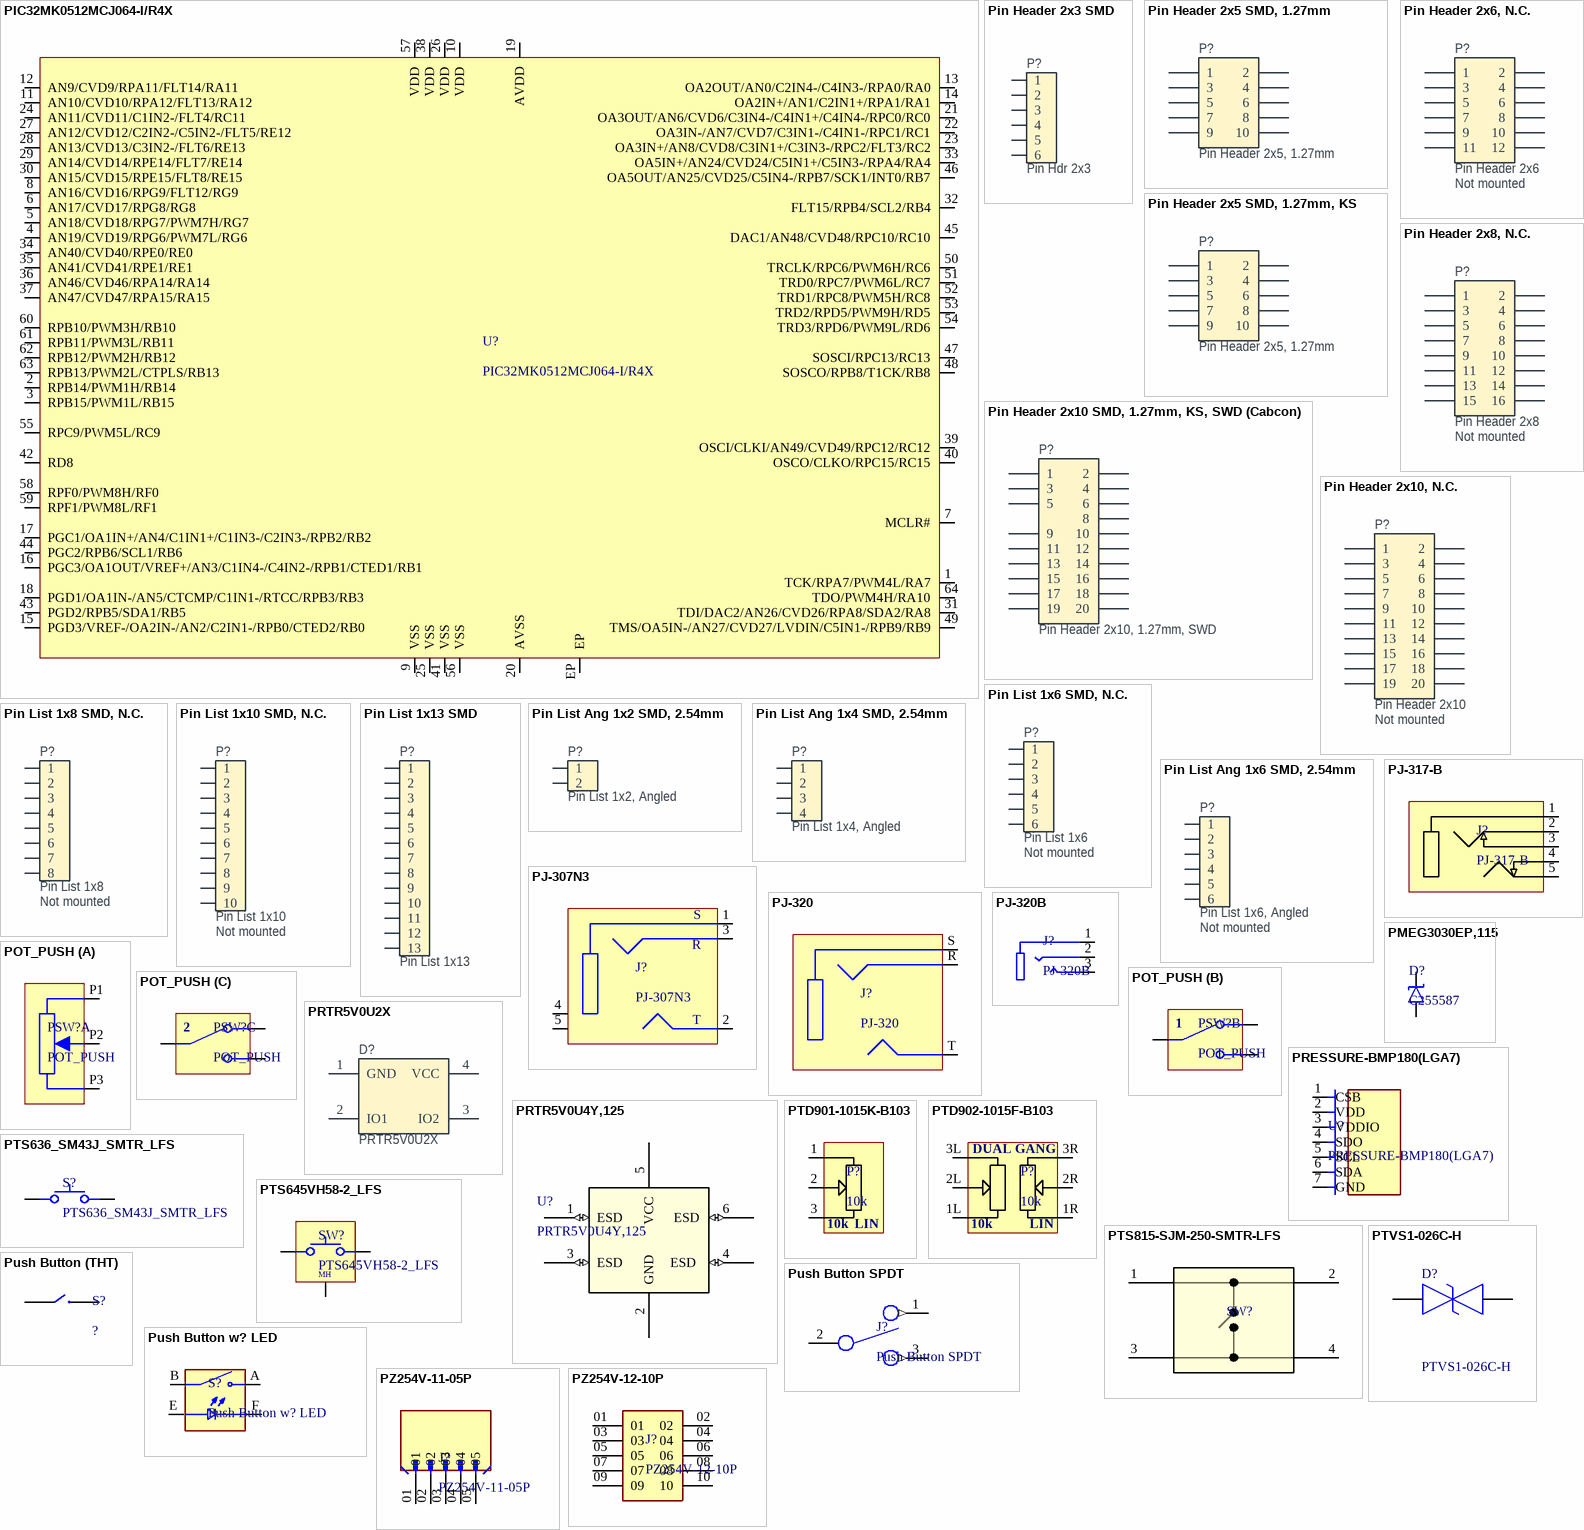
[diagram p28: symbols PIC32MK0512MCJ064-I/R4X to PZ254V-12-10P]

## PIC32MK0512MCJ064-I/R4X
designator U?
32-bit Motor Control Application MCU with CAN FD, FPU, ECC Flash, 512kB Flash, 64kB SRAM, and Op amps; Manufacturer: Microchip; Manufacturer Part Number: PIC32MK0512MCJ064-I/R4X
footprint QFN-64-9x9x0.9-0.5P (QFN, 64-Leads, Body 9.00x9.00mm, Pitch 0.50mm, Thermal Pad 5.40x5.40mm, IPC Medium Density)
pins: 1 TCK/RPA7/PWM4L/RA7, 2 RPB14/PWM1H/RB14, 3 RPB15/PWM1L/RB15, 4 AN19/CVD19/RPG6/PWM7L/RG6, 5 AN18/CVD18/RPG7/PWM7H/RG7, 6 AN17/CVD17/RPG8/RG8, 7 MCLR#, 8 AN16/CVD16/RPG9/FLT12/RG9, 9 VSS (power), 10 VDD (power), 11 AN10/CVD10/RPA12/FLT13/RA12, 12 AN9/CVD9/RPA11/FLT14/RA11, 13 OA2OUT/AN0/C2IN4-/C4IN3-/RPA0/RA0, 14 OA2IN+/AN1/C2IN1+/RPA1/RA1, 15 PGD3/VREF-/OA2IN-/AN2/C2IN1-/RPB0/CTED2/RB0, 16 PGC3/OA1OUT/VREF+/AN3/C1IN4-/C4IN2-/RPB1/CTED1/RB1, 17 PGC1/OA1IN+/AN4/C1IN1+/C1IN3-/C2IN3-/RPB2/RB2, 18 PGD1/OA1IN-/AN5/CTCMP/C1IN1-/RTCC/RPB3/RB3, 19 AVDD (power), 20 AVSS (power), 21 OA3OUT/AN6/CVD6/C3IN4-/C4IN1+/C4IN4-/RPC0/RC0, 22 OA3IN-/AN7/CVD7/C3IN1-/C4IN1-/RPC1/RC1, 23 OA3IN+/AN8/CVD8/C3IN1+/C3IN3-/RPC2/FLT3/RC2, 24 AN11/CVD11/C1IN2-/FLT4/RC11, 25 VSS (power), 26 VDD (power), 27 AN12/CVD12/C2IN2-/C5IN2-/FLT5/RE12, 28 AN13/CVD13/C3IN2-/FLT6/RE13, 29 AN14/CVD14/RPE14/FLT7/RE14, 30 AN15/CVD15/RPE15/FLT8/RE15, 31 TDI/DAC2/AN26/CVD26/RPA8/SDA2/RA8, 32 FLT15/RPB4/SCL2/RB4, 33 OA5IN+/AN24/CVD24/C5IN1+/C5IN3-/RPA4/RA4, 34 AN40/CVD40/RPE0/RE0, 35 AN41/CVD41/RPE1/RE1, 36 AN46/CVD46/RPA14/RA14, 37 AN47/CVD47/RPA15/RA15, 38 VDD (power), 39 OSCI/CLKI/AN49/CVD49/RPC12/RC12, 40 OSCO/CLKO/RPC15/RC15, 41 VSS (power), 42 RD8, 43 PGD2/RPB5/SDA1/RB5, 44 PGC2/RPB6/SCL1/RB6, 45 DAC1/AN48/CVD48/RPC10/RC10, 46 OA5OUT/AN25/CVD25/C5IN4-/RPB7/SCK1/INT0/RB7, 47 SOSCI/RPC13/RC13, 48 SOSCO/RPB8/T1CK/RB8, 49 TMS/OA5IN-/AN27/CVD27/LVDIN/C5IN1-/RPB9/RB9, 50 TRCLK/RPC6/PWM6H/RC6, 51 TRD0/RPC7/PWM6L/RC7, 52 TRD1/RPC8/PWM5H/RC8, 53 TRD2/RPD5/PWM9H/RD5, 54 TRD3/RPD6/PWM9L/RD6, 55 RPC9/PWM5L/RC9, 56 VSS (power), 57 VDD (power), 58 RPF0/PWM8H/RF0, 59 RPF1/PWM8L/RF1, 60 RPB10/PWM3H/RB10, 61 RPB11/PWM3L/RB11, 62 RPB12/PWM2H/RB12, 63 RPB13/PWM2L/CTPLS/RB13, 64 TDO/PWM4H/RA10, EP (power)

## Pin Header 2x3 SMD
designator P?, comment Pin Hdr 2x3
Pin Header 2x3, 2.54mm (100mil) SMD; Part Number: Pin Header 2x3 SMD; Manufacturer: WCON; Manufacturer Part Number: 1125-1203S0M116R1; Part number IPS: 00000009966; Part number Norautron: N.A.; Part number NEMS: 100500242; Artikkelnr Noca: 55010007; Pad Count: 6; Component Status: Active; System: Connector; Footprint Doc: HDR_2x3-SMD; LatestRevisionDate: 2016-01-22; Published: 2016-01-22; Value: Pin Hdr 2x3; Note: SMD; ComponentLink1URL: N.A.; ComponentLink1Description: Datasheet; ComponentLink2URL: N.A.; ComponentLink2Description: Supplier link; HelpURL: \\hizz\pro\app9717\Datasheet\connectors\W-CON\1125-12XXXXMXXXXX.PDF; Supplier 1: Cabcon; Supplier Part Number 1: 1125-1203S0M116R1; Supplier 2: Samtec; Supplier Part Number 2: TSM-103-01-L-DV; PartId: 100500242; Component Class: Connectors; Author: rsk
footprint HDR_2x3-SMD
pins: 1, 2, 3, 4, 5, 6
1 alternate drawing of the same symbol

## Pin Header 2x5 SMD, 1.27mm
designator P?, comment Pin Header 2x5, 1.27mm
Pin Header 2x5, 1.27mm (50mil), SMD; Part Number: Pin Header 2x5 SMD, 1.27mm; Manufacturer: WCON; Manufacturer Part Number: 1325-1205S0M078R1; Part number IPS: 00000009970; Part number NEMS: 100500259; Note: N.A.; Artikkelnr Noca: 55019196; Pad Count: 10; Component Status: Active; System: Connector; Footprint Doc: HDR_2x5-SMD-1.27mm; LatestRevisionDate: 2016-04-21; Published: 2010-11-25; Value: Pin Header 2x5, 1.27mm; ComponentLink1URL: N.A.; ComponentLink1Description: Datasheet; ComponentLink2URL: N.A.; ComponentLink2Description: Supplier link; HelpURL: http://www.farnell.com/datasheets/81359.pdf; Supplier 1: Cabcon; Supplier Part Number 1: 1325-1205S0M078R1; Supplier 2: Farnell; Supplier Part Number 2: 166-7759; PartId: 100500259; Component Class: Connectors; Author: rsk; Part number Norautron: N.A.
footprint HDR_2x5-SMD-1.27mm
pins: 1, 2, 3, 4, 5, 6, 7, 8, 9, 10

## Pin Header 2x5 SMD, 1.27mm, KS
designator P?, comment Pin Header 2x5, 1.27mm
Pin Header 2x5, 1.27mm (50mil), SMD, Keying Shroud; Part Number: Pin Header 2x5 SMD, 1.27mm, KS; Manufacturer: WCON; Manufacturer Part Number: 3132-10MS0BK00R1; Part number IPS: 00000009968; Part number NEMS: 100500261; Note: N.A.; Artikkelnr Noca: 55010009; Pad Count: 10; Component Status: Active; System: Connector; Footprint Doc: HDR_2x5-SMD-1.27mm; LatestRevisionDate: 2016-04-21; Published: 2016-01-22; Value: Pin Header 2x5, 1.27mm; ComponentLink1URL: N.A.; ComponentLink1Description: Datasheet; ComponentLink2URL: N.A.; ComponentLink2Description: Supplier link; HelpURL: \\hizz\pro\app9717\Datasheet\connectors\W-CON\3132-XXMXXBK00XX.pdf; Supplier 1: Cabcon; Supplier Part Number 1: 3132-10MS0BK00R1; Supplier 2: Samtec; Supplier Part Number 2: FTSH-105-01-F-DV-K; PartId: 100500261; Component Class: Connectors; Author: rsk; Part number Norautron: N.A.
footprint HDR_2x5-SMD-1.27mm-K
pins: 1, 2, 3, 4, 5, 6, 7, 8, 9, 10

## Pin Header 2x6, N.C.
designator P?, comment Pin Header 2x6  Assembly: Not mounted
Pin Header 2x6, 2.54mm (100mil); Part Number: Pin Header 2x6, N.C.; Manufacturer: N.A.; Part number NEMS: 100500265; Pad Count: 12; Component Status: Active; System: Connector; Manufacturer Part Number: N.A.; Footprint Doc: HDR_2x6; LatestRevisionDate: 2014-07-04; Published: 2009-12-12; Value: Pin Header 2x6; Note: N.A.; Artikkelnr Noca: N.A.; Part number IPS: N.A.; ComponentLink1URL: N.A.; ComponentLink1Description: Datasheet; ComponentLink2URL: N.A.; ComponentLink2Description: Supplier link; HelpURL: N.A.; Supplier 1: N.A.; Supplier Part Number 1: N.A.; Supplier 2: N.A.; Supplier Part Number 2: N.A.; PartId: 100500265; Component Class: Connectors; Author: rsk; Part number Norautron: N.A.
footprint HDR_2x6-NC
pins: 1, 2, 3, 4, 5, 6, 7, 8, 9, 10, 11, 12

## Pin Header 2x8, N.C.
designator P?, comment Pin Header 2x8  Assembly: Not mounted
Pin Header 2x8, 2.54mm (100mil); Part Number: Pin Header 2x8, N.C.; Manufacturer: N.A.; Part number NEMS: 100500270; Pad Count: 16; Component Status: Active; System: Connector; Manufacturer Part Number: N.A.; Footprint Doc: HDR_2x8; LatestRevisionDate: 2009-12-12; Published: 2009-12-12; Value: Pin Header 2x8; Note: N.A.; Artikkelnr Noca: N.A.; Part number IPS: N.A.; ComponentLink1URL: N.A.; ComponentLink1Description: Datasheet; ComponentLink2URL: N.A.; ComponentLink2Description: Supplier link; HelpURL: N.A.; Supplier 1: N.A.; Supplier Part Number 1: N.A.; Supplier 2: N.A.; Supplier Part Number 2: N.A.; PartId: 100500270; Component Class: Connectors; Author: rsk; Part number Norautron: N.A.
footprint HDR_2x8-NC
pins: 1, 2, 3, 4, 5, 6, 7, 8, 9, 10, 11, 12, 13, 14, 15, 16
1 alternate drawing of the same symbol

## Pin Header 2x10 SMD, 1.27mm, KS, SWD (Cabcon)
designator P?, comment Pin Header 2x10, 1.27mm, SWD
Pin Header 2x10, 1.27mm (50mil), SMD, Keying Shroud, Removed Pin 7; Part Number: Pin Header 2x10 SMD, 1.27mm, KS, SWD (Cabcon); Manufacturer: WCON; Manufacturer Part Number: 3132-20MS0BK00R3; Part number NEMS: 100500841,100500280; Note: N.A.; Pad Count: 19; Component Status: Active; System: Connector; LatestRevisionDate: 2023-12-14; Published: 2023-12-14; Value: Pin Header 2x10, 1.27mm, SWD; Artikkelnr Noca: N.A.; Footprint Doc: HDR_2x10-SMD-1.27mm-SWD; Part number IPS: N.A.; ComponentLink1URL: N.A.; ComponentLink1Description: Datasheet; ComponentLink2URL: N.A.; ComponentLink2Description: Supplier link; HelpURL: N.A.; Supplier 1: Cabcon; Supplier Part Number 1: 3132-20MS0BK00R3; Supplier 2: N.A.; Supplier Part Number 2: N.A.; PartId: 100500841; Component Class: Connectors; Author: kod1; Part number Norautron: N.A.
footprint HDR_2x10-SMD-1.27mm-K-SWD
pins: 1, 2, 3, 4, 5, 6, 8, 9, 10, 11, 12, 13, 14, 15, 16, 17, 18, 19, 20

## Pin Header 2x10, N.C.
designator P?, comment Pin Header 2x10  Assembly: Not mounted
Pin Header 2x10, 2.54mm (100mil); Part Number: Pin Header 2x10, N.C.; Manufacturer: N.A.; Part number NEMS: 100500274; Pad Count: 20; Component Status: Active; System: Connector; Manufacturer Part Number: N.A.; Footprint Doc: HDR_2x10; LatestRevisionDate: 2017-02-02; Published: 2017-01-30; Value: Pin Header 2x10; Note: N.A.; Artikkelnr Noca: N.A.; Part number IPS: N.A.; ComponentLink1URL: N.A.; ComponentLink1Description: Datasheet; ComponentLink2URL: N.A.; ComponentLink2Description: Supplier link; HelpURL: N.A.; Supplier 1: N.A.; Supplier Part Number 1: N.A.; Supplier 2: N.A.; Supplier Part Number 2: N.A.; PartId: 100500274; Component Class: Connectors; Author: rsk; Part number Norautron: N.A.
footprint HDR_2x10-NC
pins: 1, 2, 3, 4, 5, 6, 7, 8, 9, 10, 11, 12, 13, 14, 15, 16, 17, 18, 19, 20

## Pin List 1x6 SMD, N.C.
designator P?, comment Pin List 1x6  Assembly: Not mounted
Pin List 1x6, 2.54mm (100mil), SMD; Part Number: Pin List 1x6 SMD, N.C.; Manufacturer: WCON; Manufacturer Part Number: 1125-1106S0M116R2; Part number NEMS: 100500321; Note: N.A.; Artikkelnr Noca: 55010026; Pad Count: 6; Component Status: Active; System: Connector; LatestRevisionDate: 2016-03-29; Published: 2016-03-29; Value: Pin List 1x6; Footprint Doc: LIST_1x6_SMD; Part number IPS: N.A.; ComponentLink1URL: N.A.; ComponentLink1Description: Datasheet; ComponentLink2URL: N.A.; ComponentLink2Description: Supplier link; HelpURL: \\hizz\pro\app9717\Datasheet\connectors\W-CON\1125-11XXXXMXXXXX.pdf; Supplier 1: Cabcon; Supplier Part Number 1: 1125-1106S0M116R2; Supplier 2: Samtec; Supplier Part Number 2: TSM-106-01-L-SV-P-TR; PartId: 100500321; Component Class: Connectors; Author: rsk; Part number Norautron: N.A.
footprint LIST_1x6_SMD-NC
pins: 1, 2, 3, 4, 5, 6
1 alternate drawing of the same symbol

## Pin List 1x8 SMD, N.C.
designator P?, comment Pin List 1x8  Assembly: Not mounted
Pin List 1x8, 2.54mm (100mil), SMD; Part Number: Pin List 1x8 SMD, N.C.; Manufacturer: WCON; Manufacturer Part Number: 1125-1108S0M116R2; Part number NEMS: 100500330; Note: N.A.; Artikkelnr Noca: 55010006; Pad Count: 8; Component Status: Active; System: Connector; LatestRevisionDate: 2016-01-22; Published: 2016-01-22; Value: Pin List 1x8; Footprint Doc: LIST_1x8_SMD; Part number IPS: N.A.; ComponentLink1URL: N.A.; ComponentLink1Description: Datasheet; ComponentLink2URL: N.A.; ComponentLink2Description: Supplier link; HelpURL: \\hizz\pro\app9717\Datasheet\connectors\W-CON\1125-11XXXXMXXXXX.pdf; Supplier 1: Cabcon; Supplier Part Number 1: 1125-1108S0M116R2; Supplier 2: Samtec; Supplier Part Number 2: TSM-108-01-L-SV-P-TR; PartId: 100500330; Component Class: Connectors; Author: rsk; Part number Norautron: N.A.
footprint LIST_1x8_SMD-NC
pins: 1, 2, 3, 4, 5, 6, 7, 8
1 alternate drawing of the same symbol

## Pin List 1x10 SMD, N.C.
designator P?, comment Pin List 1x10  Assembly: Not mounted
Pin List 1x10, 2.54mm (100mil), SMD; Part Number: Pin List 1x10 SMD, N.C.; Manufacturer: WCON; Manufacturer Part Number: 1125-1110S0M116R2; Part number NEMS: 100500338; Note: N.A.; Artikkelnr Noca: 55010028; Pad Count: 10; Component Status: Active; System: Connector; LatestRevisionDate: 2016-03-29; Published: 2016-03-29; Value: Pin List 1x10; Footprint Doc: LIST_1x10_SMD; Part number IPS: N.A.; ComponentLink1URL: N.A.; ComponentLink1Description: Datasheet; ComponentLink2URL: N.A.; ComponentLink2Description: Supplier link; HelpURL: \\hizz\pro\app9717\Datasheet\connectors\W-CON\1125-11XXXXMXXXXX.pdf; Supplier 1: Cabcon; Supplier Part Number 1: 1125-1110S0M116R2; Supplier 2: Samtec; Supplier Part Number 2: TSM-110-01-L-SV-P-TR; PartId: 100500338; Component Class: Connectors; Author: rsk; Part number Norautron: N.A.
footprint LIST_1x10_SMD-NC
pins: 1, 2, 3, 4, 5, 6, 7, 8, 9, 10
1 alternate drawing of the same symbol

## Pin List 1x13 SMD
designator P?, comment Pin List 1x13
Pin List 1x13, 2.54mm (100mil), SMD; Part Number: Pin List 1x13 SMD; Manufacturer: N.A.; Part number IPS: 00000002499; Part number NEMS: 100500345; Pad Count: 13; Component Status: Active; System: Connector; Manufacturer Part Number: N.A.; Footprint Doc: LIST_1x13_SMD; LatestRevisionDate: 2015-11-10; Published: 2015-11-10; Value: Pin List 1x13; Note: N.A.; Artikkelnr Noca: N.A.; ComponentLink1URL: N.A.; ComponentLink1Description: Datasheet; ComponentLink2URL: N.A.; ComponentLink2Description: Supplier link; HelpURL: N.A.; Supplier 1: Cabcon; Supplier Part Number 1: 1125-1113S0M116R2; Supplier 2: Samtec; Supplier Part Number 2: TSM-113-01-L-SV-P-TR; PartId: 100500345; Component Class: Connectors; Author: rsk; Part number Norautron: N.A.
footprint LIST_1x13_SMD
pins: 1, 2, 3, 4, 5, 6, 7, 8, 9, 10, 11, 12, 13

## Pin List Ang 1x2 SMD, 2.54mm
designator P?, comment Pin List 1x2, Angled
Pin List 1x2, 2.54mm (100mil), Right Angled, SMD; Part Number: Pin List Ang 1x2 SMD, 2.54mm; Manufacturer: WCON; Manufacturer Part Number: 1125B-1102S0Z135R2; Part number IPS: 00000009972; Part number NEMS: 100500354; Note: N.A.; Artikkelnr Noca: 55010023; Pad Count: 2; Component Status: Active; System: Connector; ComponentLink1URL: N.A.; ComponentLink1Description: Datasheet; ComponentLink2URL: N.A.; ComponentLink2Description: Supplier link; HelpURL: \\hizz\pro\app9717\Datasheet\connectors\W-CON\1125B-11XXXXZXXXXX.pdf; Footprint Doc: LIST_ANG_1x2-SMD-2.54MM; LatestRevisionDate: 2016-05-26; Published: 2016-01-22; Value: Pin List 1x2, Angled; Supplier 1: Cabcon; Supplier Part Number 1: 1125B-1102S0Z135R2; Supplier 2: Samtec; Supplier Part Number 2: TSM-102-01-L-SH-A; PartId: 100500354; Component Class: Connectors; Author: rsk; Part number Norautron: N.A.
footprint LIST_ANG_1x2-SMD-2.54MM
pins: 1, 2

## Pin List Ang 1x4 SMD, 2.54mm
designator P?, comment Pin List 1x4, Angled
Pin List 1x4, 2.54mm (100mil), Right Angled, SMD; Part Number: Pin List Ang 1x4 SMD, 2.54mm; Manufacturer: WCON; Manufacturer Part Number: 1125B-1104S0Z135CR02; Part number IPS: 00000004780; Part number NEMS: 100500358; Note: N.A.; Pad Count: 4; Component Status: Active; System: Connector; ComponentLink1URL: N.A.; ComponentLink1Description: Datasheet; ComponentLink2URL: N.A.; ComponentLink2Description: Supplier link; HelpURL: N.A.; Footprint Doc: LIST_ANG_1x4-SMD-2.54MM; LatestRevisionDate: 2020-04-29; Published: 2015-01-23; Value: Pin List 1x4, Angled; Supplier 1: Cabcon; Supplier Part Number 1: 1125B-1104S0Z135CR02; Supplier 2: Samtec; Supplier Part Number 2: TSM-104-01-L-SH-A; Artikkelnr Noca: N.A.; PartId: 100500358; Component Class: Connectors; Author: rsk; Part number Norautron: N.A.
footprint LIST_ANG_1x4-SMD-2.54MM
pins: 1, 2, 3, 4
1 alternate drawing of the same symbol

## Pin List Ang 1x6 SMD, 2.54mm
designator P?, comment Pin List 1x6, Angled  Assembly: Not mounted
Pin List 1x6, 2.54mm (100mil), Right Angled, SMD; Part Number: Pin List Ang 1x6 SMD, 2.54mm; Manufacturer: N.A.; Part number IPS: 00000003922; Part number NEMS: 100500362; Pad Count: 6; Component Status: Active; System: Connector; Manufacturer Part Number: N.A.; ComponentLink1URL: N.A.; ComponentLink1Description: Datasheet; ComponentLink2URL: N.A.; ComponentLink2Description: Supplier link; HelpURL: N.A.; Footprint Doc: LIST_ANG_1x6-SMD-2.54MM; LatestRevisionDate: 2020-04-28; Published: 2015-01-23; Value: Pin List 1x6, Angled; Note: N.A.; Supplier 1: Samtec; Supplier Part Number 1: TSM-106-01-L-SH-A; Supplier 2: Digi-Key; Supplier Part Number 2: S1113E-06-ND; Artikkelnr Noca: N.A.; PartId: 100500362; Component Class: Connectors; Author: rsk; Part number Norautron: N.A.
footprint LIST_ANG_1x6-SMD-2.54MM
pins: 1, 2, 3, 4, 5, 6
1 alternate drawing of the same symbol

## PJ-307N3
designator J?
3.5mm Headphone Jack THT; Manufacturer: XKB Connectivity; Manufacturer Part Number: PJ-307N3
footprint PJ-307N3
pins: 1 Sleeve, 2 Tip, 3 Ring, 4 NC, 5 NC
text: S; R; T

## PJ-317-B
designator J?
3.5mm 5-Position Audio Jack Horizontal Female THT; Manufacturer: XKB; Manufacturer Part Number: PJ-317-B
footprint PJ-317-B
pins: 1, 2, 3, 4, 5

## PJ-320
designator J?
3.5mm Headphone Jack THT; Manufacturer: XKB Connectivity; Manufacturer Part Number: PJ-320
footprint PJ-320
pins: R Ring, S Sleeve, T Tip

## PJ-320B
designator J?
3.5mm Headphone Jack SMD; MF: Luoyang Dishang electronics; LCSC: https://lcsc.com/product-detail/Audio-Connectors_BOOMELE-Boom-Precision-Elec-PJ-320B_C18594.html?s_z=n_PJ320B; MP: PJ-320B; LCSC NO: C18594
footprint BOOMELE_PJ-320B
pins: 1 SLEEVE, 2 RING, 3 TIP

## PMEG3030EP,115
designator D?, comment C255587
30V 360mV@3A 3A SOD-128 Schottky Diodes ROHS
footprint SOD128
pins: A, K

## POT_PUSH
designator PSW?
Potentiometer Push-Pull/Push-Push Through-Hole Generic; Manufacturer: *; Manufacturer Part Number: *
footprint POT_PUSH
part A pins: P1 1, P2 2, P3 3
part B pins: SW1COM COM, SW1NC NC, SW1NO NO
part C pins: SW2COM COM, SW2NC NC, SW2NO NO

## PRESSURE-BMP180(LGA7)
designator U?
Pressure Sensor 4.35PSI ~ 15.95PSI (30kPa ~ 110kPa) Absolute - 16 ~ 19 b 7-VLGA; MF: Bosch; MP: BMP180; Purchase-URL: https://pricing.snapeda.com/search/part/BMP180/?ref=eda; Package: LGA-7 Bosch; Value: *; Check_prices: https://www.snapeda.com/parts/BMP180/Bosch+Sensortec/view-part/?ref=eda; SnapEDA_Link: https://www.snapeda.com/parts/BMP180/Bosch+Sensortec/view-part/?ref=snap; Availability: In Stock; Price: None
footprint LGA7-1.5-3.8X3.6MM
pins: 1 CSB (io), 2 VDD (io), 3 VDDIO (io), 4 SDO (io), 5 SCL (io), 6 SDA (io), 7 GND (io)

## PRTR5V0U2X
designator D?
Ultra low capacitance double rail-to-rail ESD protection diode; Manufacturer: NXP Semiconductors; Part number IPS: 00000009951; Part number Norautron: 26313940; Part number NEMS: 101300082; Note: N.A.; Artikkelnr Noca: 10069015; Pad Count: 4; Component Status: Active; Part Number: PRTR5V0U2X; Manufacturer Part Number: PRTR5V0U2X; LatestRevisionDate: 2017-11-09; Published: 2012-06-11; Value: PRTR5V0U2X; Footprint Doc: SOT-143B; ComponentLink1URL: N.A.; ComponentLink1Description: Datasheet; ComponentLink2URL: N.A.; ComponentLink2Description: Supplier link; HelpURL: http://www.farnell.com/datasheets/109718.pdf; Supplier 1: Digi-Key; Supplier Part Number 1: 568-4140-1-ND; Supplier 2: Farnell; Supplier Part Number 2: 152-4157; PartId: 101300082; Component Class: Semiconductors; Author: rsk
footprint SOT190P230X110-4L
pins: 1 GND, 2 IO1, 3 IO2, 4 VCC

## PRTR5V0U4Y,125
designator U?
Description; Manufacturer_Name: Nexperia; Copyright: Copyright (C) 2025 Ultra Librarian. All rights reserved.; Manufacturer_Part_Number: PRTR5V0U4Y,125; RefDes: RefDes; Type: Type
footprint SO6_PRTR5V0U4Y_NEX
pins: 1 ESD (io), 2 GND (power), 3 ESD (io), 4 ESD  (io), 5 VCC (power), 6 ESD (io)

## PTD901-1015K-B103
designator P?, comment 10k
Potentiometer Horizontal 10k Linear Taper 10% Knurled Shaft THT PCB-Mount; Manufacturer: Bourns; Manufacturer Part Number: PTD901-1015K-B103; Distributor Link: https://eu.mouser.com/ProductDetail/Bourns/PTD901-1015K-B103?qs=h2IHEVivlqCjfZBh0jm4Mw%3D%3D
footprint PTD901-XX15K
pins: 1, 2, 3
text: LIN

## PTD902-1015F-B103
designator P?, comment 10k
Potentiometer Horizontal 10k Dual Gang Linear Taper 10% THT PCB-Mount; Manufacturer: Bourns; Manufacturer Part Number: PTD902-1015F-B103
footprint PTD902-XX15F
pins: 1L 1, 1R 1, 2L 2, 2R 2, 3L 3, 3R 3
text: DUAL GANG; LIN

## PTS636_SM43J_SMTR_LFS
designator S?
Tactile Switch SPST-NO Top Actuated Surface Mount; Price: None; Value: *; MP: PTS636_SM43J_SMTR_LFS; Package: None; Availability: Unavailable
footprint SW_PTS636_SM43J_SMTR_LFS
pins: 1 2, 2

## PTS645VH58-2_LFS
designator SW?
Tactile Switch THT Right-Angle; Manufacturer: C&K; Manufacturer Part Number: PTS645VH58-2 LFS; Distributor Link: https://www.mouser.de/ProductDetail/CK/PTS645VH58-2-LFS?qs=rqnA19JZHeRF88sNwv94nA%3D%3D
footprint PTS645VH58-2-LFS
pins: 1, 2, MH

## PTS815-SJM-250-SMTR-LFS
designator SW?, comment Tactile Switch  (value not drawn)
Tactile Switches Tact Switch, 12 VDC, 50 mA, 4.2x3.2, 2.5mm H, 180gf, J leadspp SPST; Manufacturer: C&K Switches; Manufacturer Part Number: PTS815 SJM 250 SMTR LFS
footprint PTS815
pins: 1, 2, 3, 4

## PTVS1-026C-H
designator D?
1KA high current bidirectional TVS diodes; Manufacturer_Name: Bourns; Geometry.Height: 2.6mm; Manufacturer_Part_Number: PTVS1-026C-H; Mouser Part Number: 652-PTVS1-026C-H; Mouser Price/Stock: https://www.mouser.co.uk/ProductDetail/Bourns/PTVS1-026C-H?qs=vvQtp7zwQdNryNdoVl0pWA%3D%3D; Arrow Part Number: PTVS1-026C-H; Arrow Price/Stock: https://www.arrow.com/en/products/ptvs1-026c-h/bourns.html?utm_currency=USD&region=nac; Datasheet Link: https://g.componentsearchengine.com/Datasheets/0/16509874.pdf
footprint PTVS1026CH
pins: 1, 2

## Push Button (THT)
designator S?, comment ?
footprint FP-3-1825910-1-MFG1
pins: 1 2, 4 3

## Push Button SPDT
designator J?
Slide Switch SPDT Surface Mount, Right Angle
footprint SPDT-PS-5824DHB-3PLA
pins: 1 (out), 2 (power), 3 (out)

## Push Button w? LED
designator S?
Tactile Push Button Switch Momentary; MP: TSD1265; MF: Omten Electronics; SnapEDA_Link: https://www.snapeda.com/parts/TSD1265/Omten%20Electronics/view-part/4480006/?ref=snap; Availability: Unavailable; Check_prices: https://www.snapeda.com/parts/TSD1265/Omten%20Electronics/view-part/4480006/?ref=eda; Price: None; Package: Package; Value: *
footprint SW_TSD1265
pins: A 2, B 1, E ANODE, F CATHODE

## PZ254V-11-05P
designator J?
Through Hole Pin Header 2.5mm 5P 6mm -40℃~+105℃ 3mm 2.54mm 1 Black Brass 1x5P Through Hole,P=2.54mm Pin Headers ROHS; MP: HTSW-105-14-T-S; Value: *; Package: None; Price: None; Availability: Unavailable
footprint SAMTEC_HTSW-105-14-T-S
pins: 01, 02, 03, 04, 05

## PZ254V-12-10P
designator J?
Through Hole Pin Header 2.5mm 10P 6mm -40℃~+105℃ 3mm 2.54mm 2 Black Brass 2x5P 2.54mm Through Hole,P=2.54mm Pin Headers ROHS; MF: {'manufacturer': u'Samtec Inc.'}; MP: MTSW-105-X-X-D-X; Package: None; Price: None; Value: *; Availability: Unavailable
footprint SAMTEC_MTSW-105-X-X-D-X
pins: 01, 02, 03, 04, 05, 06, 07, 08, 09, 10

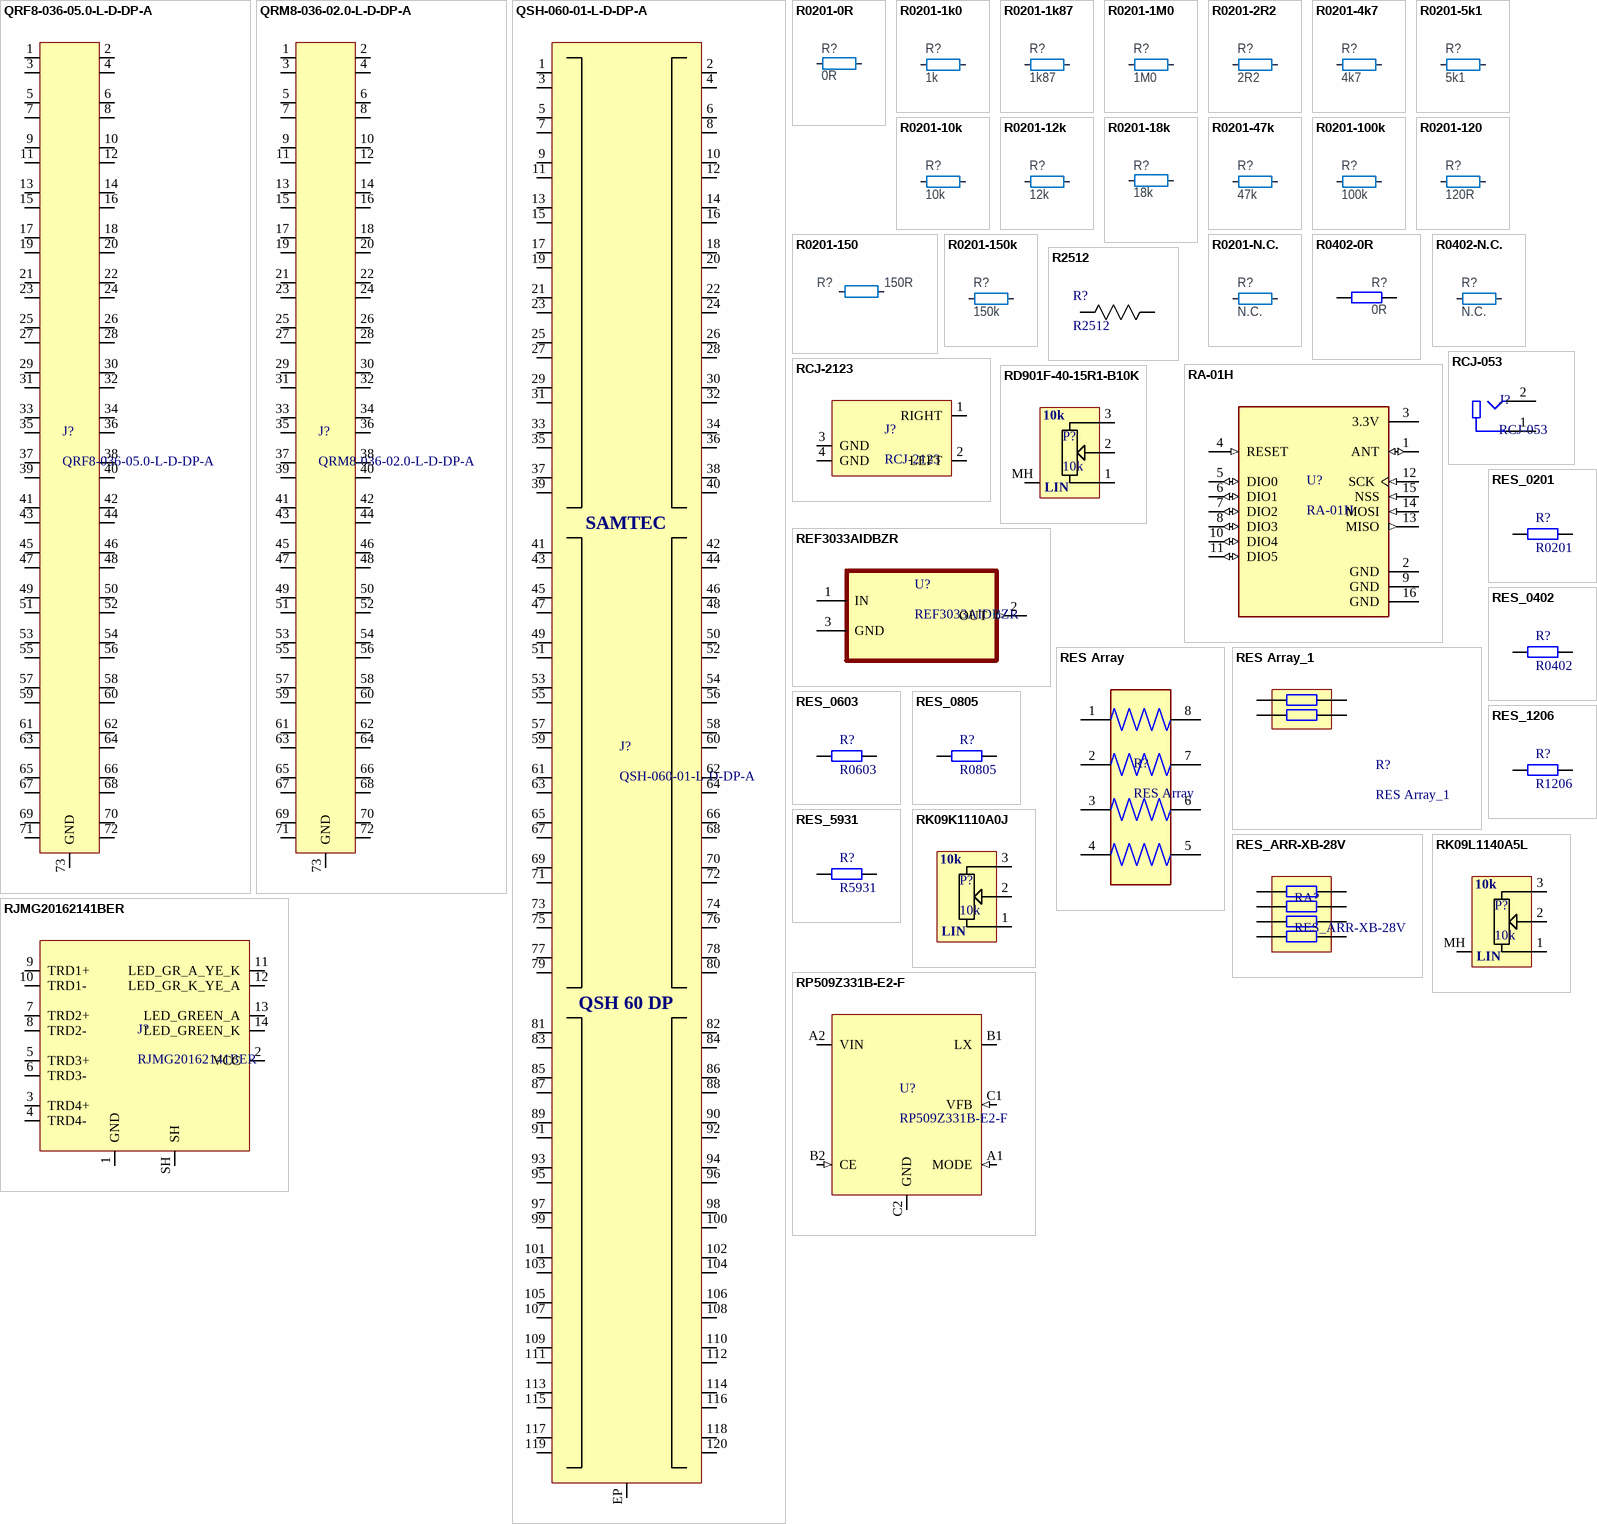
[diagram p29: symbols QRF8-036-05.0-L-D-DP-A to RP509Z331B-E2-F]

## QRF8-036-05.0-L-D-DP-A
designator J?
Board to Board & Mezzanine Connectors 0.80 mm Q Rate Slim Body Ground Plane Socket; Manufacturer: Samtec; Manufacturer Part Number: QRF8-036-05.0-L-D-DP-A
footprint QRF8-036-05.0-X-D-DP-A
pins: 1, 2, 3, 4, 5, 6, 7, 8, 9, 10, 11, 12, 13, 14, 15, 16, 17, 18, 19, 20, 21, 22, 23, 24, 25, 26, 27, 28, 29, 30, 31, 32, 33, 34, 35, 36, 37, 38, 39, 40, 41, 42, 43, 44, 45, 46, 47, 48, 49, 50, 51, 52, 53, 54, 55, 56, 57, 58, 59, 60, 61, 62, 63, 64, 65, 66, 67, 68, 69, 70, 71, 72, 73 GND

## QRM8-036-02.0-L-D-DP-A
designator J?
Board to Board & Mezzanine Connectors 0.80 mm Q Rate Slim Body Ground Plane Header; Manufacturer: Samtec; Manufacturer Part Number: QRM8-036-02.0-L-D-DP-A
footprint QRM8-036-02.0-L-D-DP-A
pins: 1, 2, 3, 4, 5, 6, 7, 8, 9, 10, 11, 12, 13, 14, 15, 16, 17, 18, 19, 20, 21, 22, 23, 24, 25, 26, 27, 28, 29, 30, 31, 32, 33, 34, 35, 36, 37, 38, 39, 40, 41, 42, 43, 44, 45, 46, 47, 48, 49, 50, 51, 52, 53, 54, 55, 56, 57, 58, 59, 60, 61, 62, 63, 64, 65, 66, 67, 68, 69, 70, 71, 72, 73 GND

## QSH-060-01-L-D-DP-A
designator J?
0.50 mm Q Pairs® High-Speed Ground Plane Socket Strip, Differential Pair 120 Positions; Manufacturer: Samtec; Manufacturer Part Number: QSH-060-01-L-D-DP-A
footprint QSH-060-01-L-D-DP-A
pins: 1, 2, 3, 4, 5, 6, 7, 8, 9, 10, 11, 12, 13, 14, 15, 16, 17, 18, 19, 20, 21, 22, 23, 24, 25, 26, 27, 28, 29, 30, 31, 32, 33, 34, 35, 36, 37, 38, 39, 40, 41, 42, 43, 44, 45, 46, 47, 48, 49, 50, 51, 52, 53, 54, 55, 56, 57, 58, 59, 60, 61, 62, 63, 64, 65, 66, 67, 68, 69, 70, 71, 72, 73, 74, 75, 76, 77, 78, 79, 80, 81, 82, 83, 84, 85, 86, 87, 88, 89, 90, 91, 92, 93, 94, 95, 96, 97, 98, 99, 100, 101, 102, 103, 104, 105, 106, 107, 108, 109, 110, 111, 112, 113, 114, 115, 116, 117, 118, 119, 120, EP
text: SAMTEC; QSH 60 DP

## R0201-0R
designator R?, comment 0R
Resistor, ±5%, 0.05W; Part Number: R0201-0R; Manufacturer: N.A.; Part number IPS: 00000003245; Part number NEMS: 100100001; Note: Chip Res 5%; Pad Count: 2; Component Status: Active; Manufacturer Part Number: N.A.; ComponentLink1URL: N.A.; ComponentLink1Description: Datasheet; ComponentLink2URL: N.A.; ComponentLink2Description: Supplier link; HelpURL: N.A.; Footprint Doc: 0201; LatestRevisionDate: 2017-11-09; Published: 2014-11-13; Value: 0R; Artikkelnr Noca: N.A.; Supplier 1: N.A.; Supplier Part Number 1: N.A.; Supplier 2: N.A.; Supplier Part Number 2: N.A.; PartId: 100100001; Component Class: Resistors; Author: rsk; Part number Norautron: N.A.
footprint RESC0603X03L_C
pins: 1, 2

## R0201-1k0
designator R?, comment 1k
Resistor, ±1%, 0.05W; Part Number: R0201-1k0; Manufacturer: N.A.; Part number IPS: 00000005786; Part number NEMS: 100100043; Note: Chip Res 1%; Pad Count: 2; Component Status: Active; Manufacturer Part Number: N.A.; ComponentLink1URL: N.A.; ComponentLink1Description: Datasheet; ComponentLink2URL: N.A.; ComponentLink2Description: Supplier link; HelpURL: N.A.; Footprint Doc: 0201; LatestRevisionDate: 2014-11-13; Published: 2014-11-13; Value: 1k; Artikkelnr Noca: N.A.; Supplier 1: N.A.; Supplier Part Number 1: N.A.; Supplier 2: N.A.; Supplier Part Number 2: N.A.; PartId: 100100043; Component Class: Resistors; Author: rsk; Part number Norautron: N.A.
footprint RESC0603X03L_C
pins: 1, 2

## R0201-1k87
designator R?, comment 1k87
Resistor, ±1%, 0.05W; Part Number: R0201-1k87; Manufacturer: N.A.; Part number NEMS: 100100050; Note: Chip Res 1%; Pad Count: 2; Component Status: Active; Manufacturer Part Number: N.A.; ComponentLink1URL: N.A.; ComponentLink1Description: Datasheet; ComponentLink2URL: N.A.; ComponentLink2Description: Supplier link; HelpURL: N.A.; Footprint Doc: 0201; LatestRevisionDate: 2019-07-16; Published: 2019-07-16; Value: 1k87; Artikkelnr Noca: N.A.; Part number IPS: N.A.; Supplier 1: N.A.; Supplier Part Number 1: N.A.; Supplier 2: N.A.; Supplier Part Number 2: N.A.; PartId: 100100050; Component Class: Resistors; Author: rsk; Part number Norautron: N.A.
footprint RESC0603X03L_C
pins: 1, 2

## R0201-1M0
designator R?, comment 1M0
Resistor, ±1%, 0.05W; Part Number: R0201-1M0; Manufacturer: N.A.; Part number IPS: 00000001418; Part number Norautron: 26107108; Part number NEMS: 100100093; Note: Chip Res 1%; Pad Count: 2; Component Status: Active; Manufacturer Part Number: N.A.; ComponentLink1URL: N.A.; ComponentLink1Description: Datasheet; ComponentLink2URL: N.A.; ComponentLink2Description: Supplier link; HelpURL: N.A.; Footprint Doc: 0201; LatestRevisionDate: 2014-11-13; Published: 2014-11-13; Value: 1M0; Supplier 1: N.A.; Supplier Part Number 1: N.A.; Supplier 2: N.A.; Supplier Part Number 2: N.A.; Artikkelnr Noca: N.A.; PartId: 100100093; Component Class: Resistors; Author: rsk
footprint RESC0603X03L_C
pins: 1, 2

## R0201-2R2
designator R?, comment 2R2
Resistor, ±1%, 0.05W; Part Number: R0201-2R2; Manufacturer: N.A.; Part number Norautron: 26470029; Part number NEMS: 100100006; Pad Count: 2; Note: Chip Res 1%; Component Status: Active; Footprint Doc: 0201; Value: 2R2; Component Class: Resistors; Author: rsk; PartId: 100100006; Manufacturer Part Number: N.A.; ComponentLink1URL: N.A.; ComponentLink1Description: Datasheet; ComponentLink2URL: N.A.; ComponentLink2Description: Supplier link; HelpURL: N.A.; LatestRevisionDate: 2014-11-13; Published: 2014-11-13; Supplier 1: N.A.; Supplier Part Number 1: N.A.; Supplier 2: N.A.; Supplier Part Number 2: N.A.; Artikkelnr Noca: N.A.; Part number IPS: N.A.
footprint RESC0603X03L_C
pins: 1, 2